# Altium schematic symbol library CompleteLibrary.SchLib: 558 symbols (part 1 of 4)
Pins are listed as number, name and electrical type; pins without a type are passive.

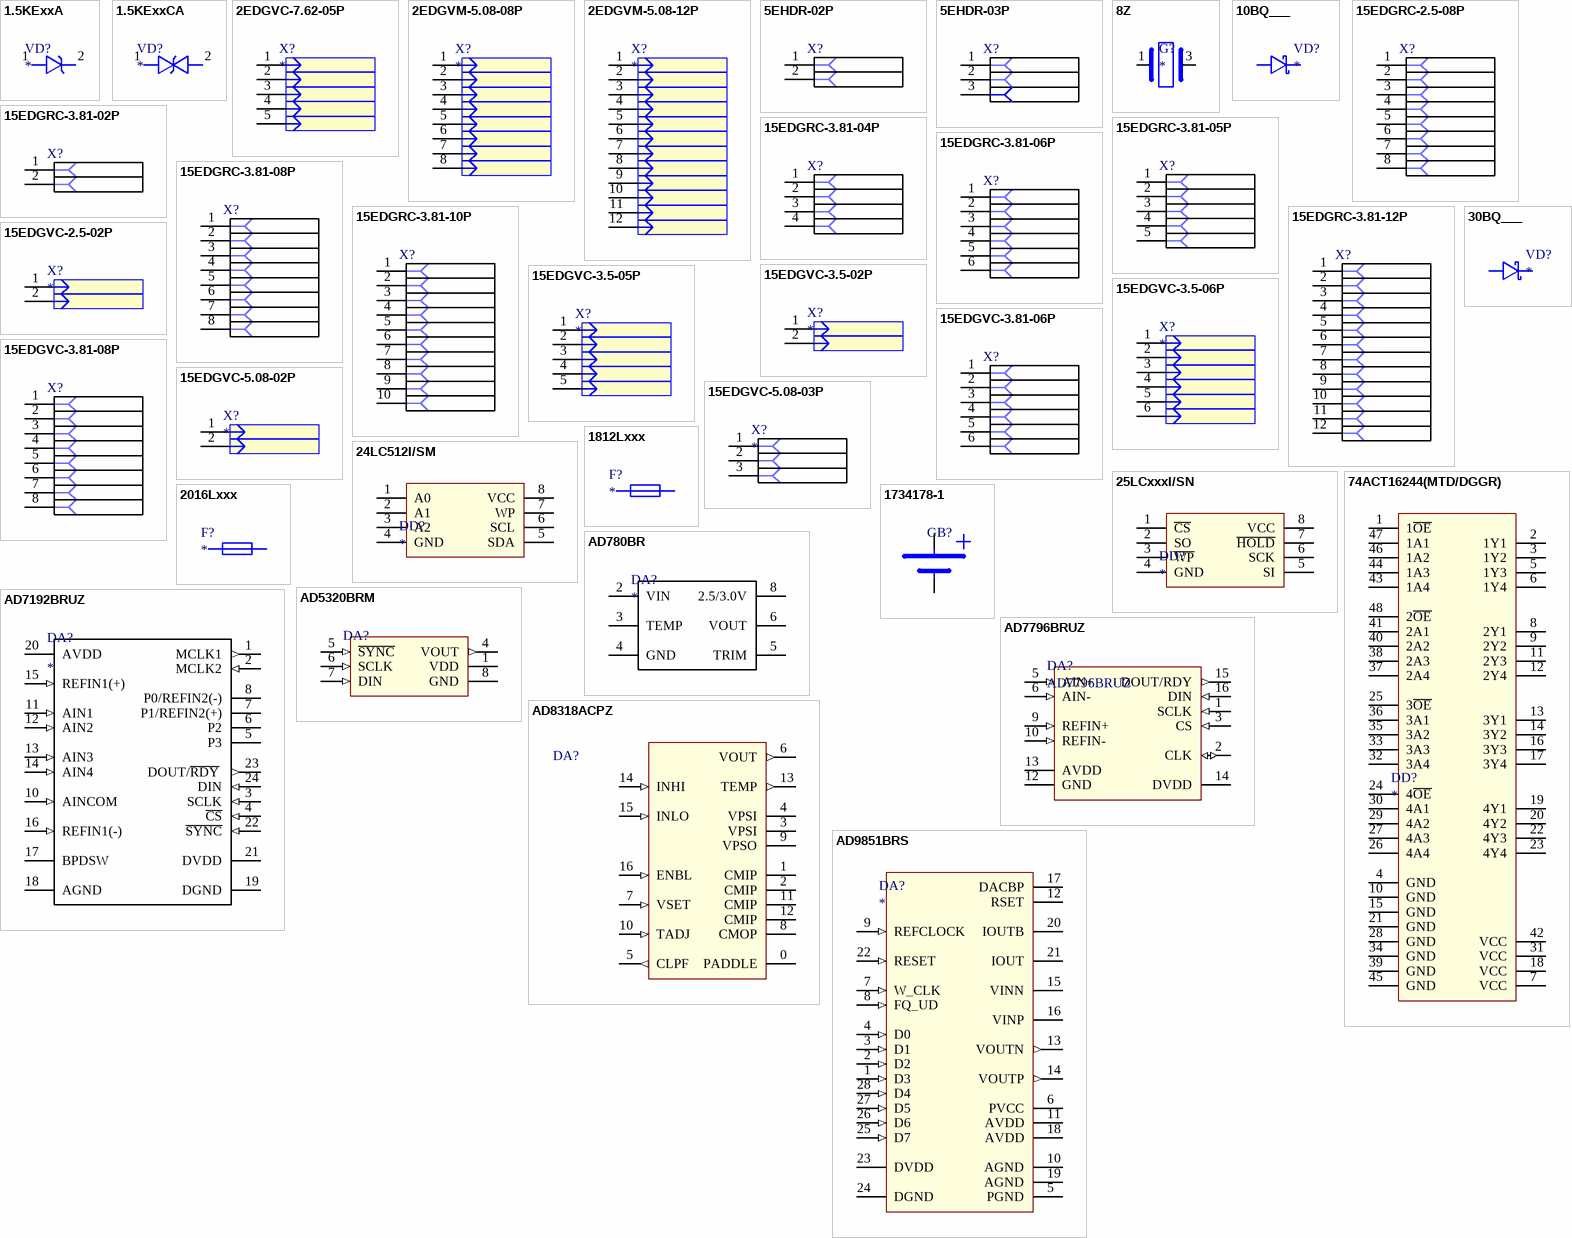
[diagram p0: symbols 1.5KExxA to AD9851BRS]

## 1.5KExxA
designator VD?
DIODE TVS Unidirectional 1500W TRANSIL 6.8V...440V; Описание: ???; NumberSolderPointsSMD: 0; Аналог: нет; NumberSolderPointsTHT: 0
footprint R6
pins: 1, 2

## 1.5KExxCA
designator VD?
DIODE TVS Bidirectional 1500W TRANSIL 6.8V...440V; Описание: ???; NumberSolderPointsSMD: 0; Аналог: нет; NumberSolderPointsTHT: 0
footprint R6
pins: 1, 2

## 2EDGVC-7.62-05P
designator X?
CONNECTOR TERMINAL pitch=7.62mm; NumberSolderPointsSMD: 0; Описание: ???; Аналог: нет; NumberSolderPointsTHT: 0
footprint 2EDGVC-7.62-05P
pins: 1, 2, 3, 4, 5

## 2EDGVM-5.08-08P
designator X?
CONNECTOR TERMINAL pitch=5.08mm; Описание: ???; NumberSolderPointsSMD: 0; Аналог: нет; NumberSolderPointsTHT: 0
footprint 2EDGVM-5.08-08P
pins: 1, 2, 3, 4, 5, 6, 7, 8

## 2EDGVM-5.08-12P
designator X?
CONNECTOR TERMINAL pitch=5.08mm; Описание: ???; NumberSolderPointsSMD: 0; Аналог: нет; NumberSolderPointsTHT: 0
footprint 2EDGVM-5.08-12P
pins: 1, 2, 3, 4, 5, 6, 7, 8, 9, 10, 11, 12

## 5EHDR-02P
designator X?
CONNECTOR TERMINAL pitch=5mm; Аналог: ECH381R-02P; Описание: Клеммник разъемный 5мм; NumberSolderPointsSMD: 0; Комплект: 5ESDV-02P; NumberSolderPointsTHT: 0
footprint 5EHDR-02P
pins: 1, 2

## 5EHDR-03P
designator X?
CONNECTOR TERMINAL pitch=5mm; Аналог: ECH381R-03P; Описание: Клеммник разъемный 5мм; NumberSolderPointsSMD: 0; Комплект: 5ESDV-03P; NumberSolderPointsTHT: 0
footprint 5EHDR-03P
pins: 1, 2, 3

## 8Z
designator G?
OSCILLATOR TXC 2.5x2.0mm; Описание: Кварцевый резонатор SMD; NumberSolderPointsSMD: 0; Аналог: нет; x: 8Z-27.120MAHQ-T; NumberSolderPointsTHT: 0
footprint TXC_8Z
pins: 1, 3

## 10BQ___
designator VD?
DIODE Schottky rectifier; Описание: Диод SMB; NumberSolderPointsSMD: 0; Аналог: нет; x: 10bq015/030/040/060/100; NumberSolderPointsTHT: 0
footprint SMB_10BQ40
pins: 1, 2

## 15EDGRC-2.5-08P
designator X?
CONNECTOR TERMINAL pitch=2.5mm; Аналог: ECH250R-08P; Описание: Клеммник разъемный 3.81мм; NumberSolderPointsSMD: 0; Комплект: ESC250V-08P, 15EDGKD-2.5-08P; NumberSolderPointsTHT: 0
footprint 15EDGRC-2.5-08
pins: 1, 2, 3, 4, 5, 6, 7, 8

## 15EDGRC-3.81-02P
designator X?
CONNECTOR TERMINAL pitch=3.81mm; Аналог: ECH381R-02P; Описание: Клеммник разъемный 3.81мм; NumberSolderPointsSMD: 0; Комплект: EC381V-02P, 15EDGK-3.81-02; NumberSolderPointsTHT: 0
footprint 15EDGRC-3.81-02
pins: 1, 2

## 15EDGRC-3.81-04P
designator X?
CONNECTOR TERMINAL pitch=3.81mm; Аналог: ECH381R-04P; Описание: Клеммник разъемный 3.81мм; NumberSolderPointsSMD: 0; Комплект: EC381V-04P, 15EDGK-3.81-04; NumberSolderPointsTHT: 0
footprint 15EDGRC-3.81-04
pins: 1, 2, 3, 4

## 15EDGRC-3.81-05P
designator X?
CONNECTOR TERMINAL pitch=3.81mm; Аналог: ECH381R-05P; Описание: Клеммник разъемный 3.81мм; NumberSolderPointsSMD: 0; Комплект: EC381V-05P, 15EDGK-3.81-05; NumberSolderPointsTHT: 0
footprint 15EDGRC-3.81-05
pins: 1, 2, 3, 4, 5

## 15EDGRC-3.81-06P
designator X?
CONNECTOR TERMINAL pitch=3.81mm; Аналог: ECH381R-06P; Описание: Клеммник разъемный 3.81мм; NumberSolderPointsSMD: 0; Комплект: EC381V-06P, 15EDGK-3.81-06; NumberSolderPointsTHT: 0
footprint 15EDGRC-3.81-06
pins: 1, 2, 3, 4, 5, 6

## 15EDGRC-3.81-08P
designator X?
CONNECTOR TERMINAL pitch=3.81mm; Аналог: ECH381R-08P; Описание: Клеммник разъемный 3.81мм; NumberSolderPointsSMD: 0; Комплект: EC381V-08P, 15EDGK-3.81-08; NumberSolderPointsTHT: 0
footprint 15EDGRC-3.81-08
pins: 1, 2, 3, 4, 5, 6, 7, 8

## 15EDGRC-3.81-10P
designator X?
CONNECTOR TERMINAL pitch=3.81mm; Аналог: ECH381R-10P; Описание: Клеммник разъемный 3.81мм; NumberSolderPointsSMD: 0; Комплект: EC381V-10P, 15EDGK-3.81-10; NumberSolderPointsTHT: 0
footprint 15EDGRC-3.81-10
pins: 1, 2, 3, 4, 5, 6, 7, 8, 9, 10

## 15EDGRC-3.81-12P
designator X?
CONNECTOR TERMINAL pitch=3.81mm; Аналог: ECH381R-12P; Описание: Клеммник разъемный 3.81мм; NumberSolderPointsSMD: 0; Комплект: EC381V-12P, 15EDGK-3.81-12; NumberSolderPointsTHT: 0
footprint 15EDGRC-3.81-12
pins: 1, 2, 3, 4, 5, 6, 7, 8, 9, 10, 11, 12

## 15EDGVC-2.5-02P
designator X?
CONNECTOR TERMINAL pitch=2.5mm; Описание: ???; NumberSolderPointsSMD: 0; Аналог: нет; NumberSolderPointsTHT: 0
footprint 15EDGVC-2.5-02P
pins: 1, 2

## 15EDGVC-3.5-02P
designator X?
CONNECTOR TERMINAL pitch=3.5mm; Описание: ???; NumberSolderPointsSMD: 0; Аналог: нет; NumberSolderPointsTHT: 0
footprint 15EDGVC-3.5-02P
pins: 1, 2

## 15EDGVC-3.5-05P
designator X?
CONNECTOR TERMINAL pitch=3.5mm; Описание: ???; NumberSolderPointsSMD: 0; Аналог: нет; NumberSolderPointsTHT: 0
footprint 15EDGVC-3.5-05P
pins: 1, 2, 3, 4, 5

## 15EDGVC-3.5-06P
designator X?
CONNECTOR TERMINAL pitch=3.5mm; Описание: ???; NumberSolderPointsSMD: 0; Аналог: нет; NumberSolderPointsTHT: 0
footprint 15EDGVC-3.5-06P
pins: 1, 2, 3, 4, 5, 6

## 15EDGVC-3.81-06P
designator X?
CONNECTOR TERMINAL pitch=3.81mm; Описание: ???; NumberSolderPointsSMD: 0; Аналог: нет; NumberSolderPointsTHT: 0
footprint 15EDGVC-3.81-06
pins: 1, 2, 3, 4, 5, 6

## 15EDGVC-3.81-08P
designator X?
CONNECTOR TERMINAL pitch=3.81mm; Описание: ???; NumberSolderPointsSMD: 0; Аналог: нет; NumberSolderPointsTHT: 0
pins: 1, 2, 3, 4, 5, 6, 7, 8

## 15EDGVC-5.08-02P
designator X?
CONNECTOR TERMINAL pitch=5.08mm; Описание: ???; NumberSolderPointsSMD: 0; Аналог: нет; NumberSolderPointsTHT: 0
footprint 15EDGVC-5.08-02P
pins: 1, 2

## 15EDGVC-5.08-03P
designator X?
CONNECTOR TERMINAL pitch=5.08mm; Описание: ???; NumberSolderPointsSMD: 0; Аналог: нет; NumberSolderPointsTHT: 0
footprint 15EDGVC-5.08-03P
pins: 1, 2, 3

## 24LC512I/SM
designator DD?
IC 512K I2C CMOS Serial EEPROM; Описание: ???; NumberSolderPointsSMD: 0; Аналог: нет; NumberSolderPointsTHT: 0
footprint SO8_24LC412
pins: 1 A0, 2 A1, 3 A2, 4 GND, 5 SDA, 6 SCL, 7 WP, 8 VCC

## 25LCxxxI/SN
designator DD?
IC SPI Serial EEPROM; Описание: ???; NumberSolderPointsSMD: 0; Аналог: нет; NumberSolderPointsTHT: 0
footprint SO8
pins: 1 ~{CS}, 2 SO, 3 ~{WP}, 4 GND, 5 SI, 6 SCK, 7 ~{HOLD}, 8 VCC

## 30BQ___
designator VD?
DIODE Schottky rectifier; Описание: Диод SMC; NumberSolderPointsSMD: 0; Аналог: нет; x: 30bq040 30bq060 30bq100; NumberSolderPointsTHT: 0
footprint SMC
pins: 1, 2

## 74ACT16244(MTD/DGGR)
designator DD?
IC 16-bit  buffers/line drivers TSSOP48; Описание: ???; NumberSolderPointsSMD: 0; Аналог: нет; NumberSolderPointsTHT: 0
footprint TSSOP48_SN54ACT16244
pins: 1 1~{OE}, 2 1Y1, 3 1Y2, 4 GND, 5 1Y3, 6 1Y4, 7 VCC, 8 2Y1, 9 2Y2, 10 GND, 11 2Y3, 12 2Y4, 13 3Y1, 14 3Y2, 15 GND, 16 3Y3, 17 3Y4, 18 VCC, 19 4Y1, 20 4Y2, 21 GND, 22 4Y3, 23 4Y4, 24 4~{OE}, 25 3~{OE}, 26 4A4, 27 4A3, 28 GND, 29 4A2, 30 4A1, 31 VCC, 32 3A4, 33 3A3, 34 GND, 35 3A2, 36 3A1, 37 2A4, 38 2A3, 39 GND, 40 2A2, 41 2A1, 42 VCC, 43 1A4, 44 1A3, 45 GND, 46 1A2, 47 1A1, 48 2~{OE}

## 1812Lxxx
designator F?
RESISTOR PTC Resettable Fuse; Описание: Предохранитель; NumberSolderPointsSMD: 0; Аналог: нет; NumberSolderPointsTHT: 0
footprint 1812Lxxx
pins: 1, 2

## 2016Lxxx
designator F?
RESISTOR PTC Resettable Fuse; Описание: Предохранитель; NumberSolderPointsSMD: 0; Аналог: нет; NumberSolderPointsTHT: 0
footprint 2016L050
pins: 1, 2

## 1734178-1
designator GB?  (value not drawn)
BATTERY CR2032; Описание: Литиевая батарейка; NumberSolderPointsSMD: 0; Аналог: нет; NumberSolderPointsTHT: 0
footprint 1734178-1
pins: 1 +, 2 -

## AD780BR
designator DA?
IC High Precision Reference 2.5 V/3.0 V; Описание: Микросхема SO8; NumberSolderPointsSMD: 0; Аналог: нет; NumberSolderPointsTHT: 0
footprint SO8
pins: 2 VIN, 3 TEMP, 4 GND, 5 TRIM, 6 VOUT, 8 2.5/3.0V

## AD5320BRM
designator DA?  (value not drawn)
IC 12-Bit DAC; Описание: ???; NumberSolderPointsSMD: 0; Аналог: нет; NumberSolderPointsTHT: 0
footprint MSOP8_AD5320
pins: 1 VDD (power), 4 VOUT (out), 5 ~{SYNC} (in), 6 SCLK (in), 7 DIN (in), 8 GND (power)

## AD7192BRUZ
designator DA?
IC 240bit sigma-delta ADC; Аналог: нет; Описание: ???
footprint TSSOP24_AD
pins: 1 MCLK1 (out), 2 MCLK2 (in), 3 SCLK (in), 4 ~{CS} (in), 5 P3, 6 P2, 7 P1/REFIN2(+), 8 P0/REFIN2(-), 10 AINCOM (in), 11 AIN1 (in), 12 AIN2 (in), 13 AIN3 (in), 14 AIN4 (in), 15 REFIN1(+) (in), 16 REFIN1(-) (in), 17 BPDSW, 18 AGND, 19 DGND, 20 AVDD, 21 DVDD, 22 ~{SYNC} (in), 23 DOUT/~{RDY}  (out), 24 DIN (in)

## AD7796BRUZ
designator DA?
IC 24-bit sigma-delta ADC; Описание: ???; NumberSolderPointsSMD: 0; Аналог: нет; NumberSolderPointsTHT: 0
footprint TSSOP16_TPS43000
pins: 1 SCLK (in), 2 CLK (io), 3 CS (in), 5 AIN+ (in), 6 AIN- (in), 9 REFIN+ (in), 10 REFIN- (in), 12 GND (power), 13 AVDD (power), 14 DVDD (power), 15 DOUT/RDY (out), 16 DIN (in)

## AD8318ACPZ
designator DA?  (value not drawn)
IC 1MHz...8GHz 70dB Logarithmic Detector/Controller; Описание: ???; NumberSolderPointsSMD: 0; Аналог: нет; NumberSolderPointsTHT: 0
footprint LFCSP16_AD8318
pins: 0 PADDLE (power) "Internally Connected to CMIP (Solder to Ground).", 1 CMIP (power) "Device Common (Input System Ground)", 2 CMIP (power) "Device Common (Input System Ground)", 3 VPSI (power) "Positive Supply Voltage (Input System): 4.5 V to 5.5 V.", 4 VPSI (power) "Positive Supply Voltage (Input System): 4.5 V to 5.5 V.", 5 CLPF (out) "Loop Filter Capacitor", 6 VOUT (out) "Measurement and Controller Output.", 7 VSET (in) "Setpoint Input for Controller Mode or Feedback Input for Measurement Mode.", 8 CMOP (power) "Device Common (Output System Ground).", 9 VPSO (power) "Positive Supply Voltage (Output System): 4.5 V to 5.5 V.", 10 TADJ (in) "Temperature Compensation Adjustment.", 11 CMIP (power) "Device Common (Input System Ground)", 12 CMIP (power) "Device Common (Input System Ground)", 13 TEMP (out) "Temperature Sensor Output.", 14 INHI (in) "RF Input. Nominal input range: ?60 dBm to 0 dBm (re: 50 ?), ac-coupled.", 15 INLO (in) "RF Common for INHI. AC-coupled RF common.", 16 ENBL (in) "Device Enable. Connect to VPSI for normal operation. Connect pin to ground for disable mode."

## AD9851BRS
designator DA?
IC CMOS 180 MHz  DDS/DAC Synthesizer; Описание: ???; NumberSolderPointsSMD: 0; Аналог: нет; NumberSolderPointsTHT: 0
footprint SSOP28_AD9851BRS
pins: 1 D3 (in), 2 D2 (in), 3 D1 (in), 4 D0 (in), 5 PGND, 6 PVCC, 7 W_CLK (in), 8 FQ_UD (in), 9 REFCLOCK (in), 10 AGND, 11 AVDD, 12 RSET, 13 VOUTN (out), 14 VOUTP (out), 15 VINN, 16 VINP, 17 DACBP, 18 AVDD, 19 AGND, 20 IOUTB, 21 IOUT, 22 RESET (in), 23 DVDD, 24 DGND, 25 D7 (in), 26 D6 (in), 27 D5 (in), 28 D4 (in)

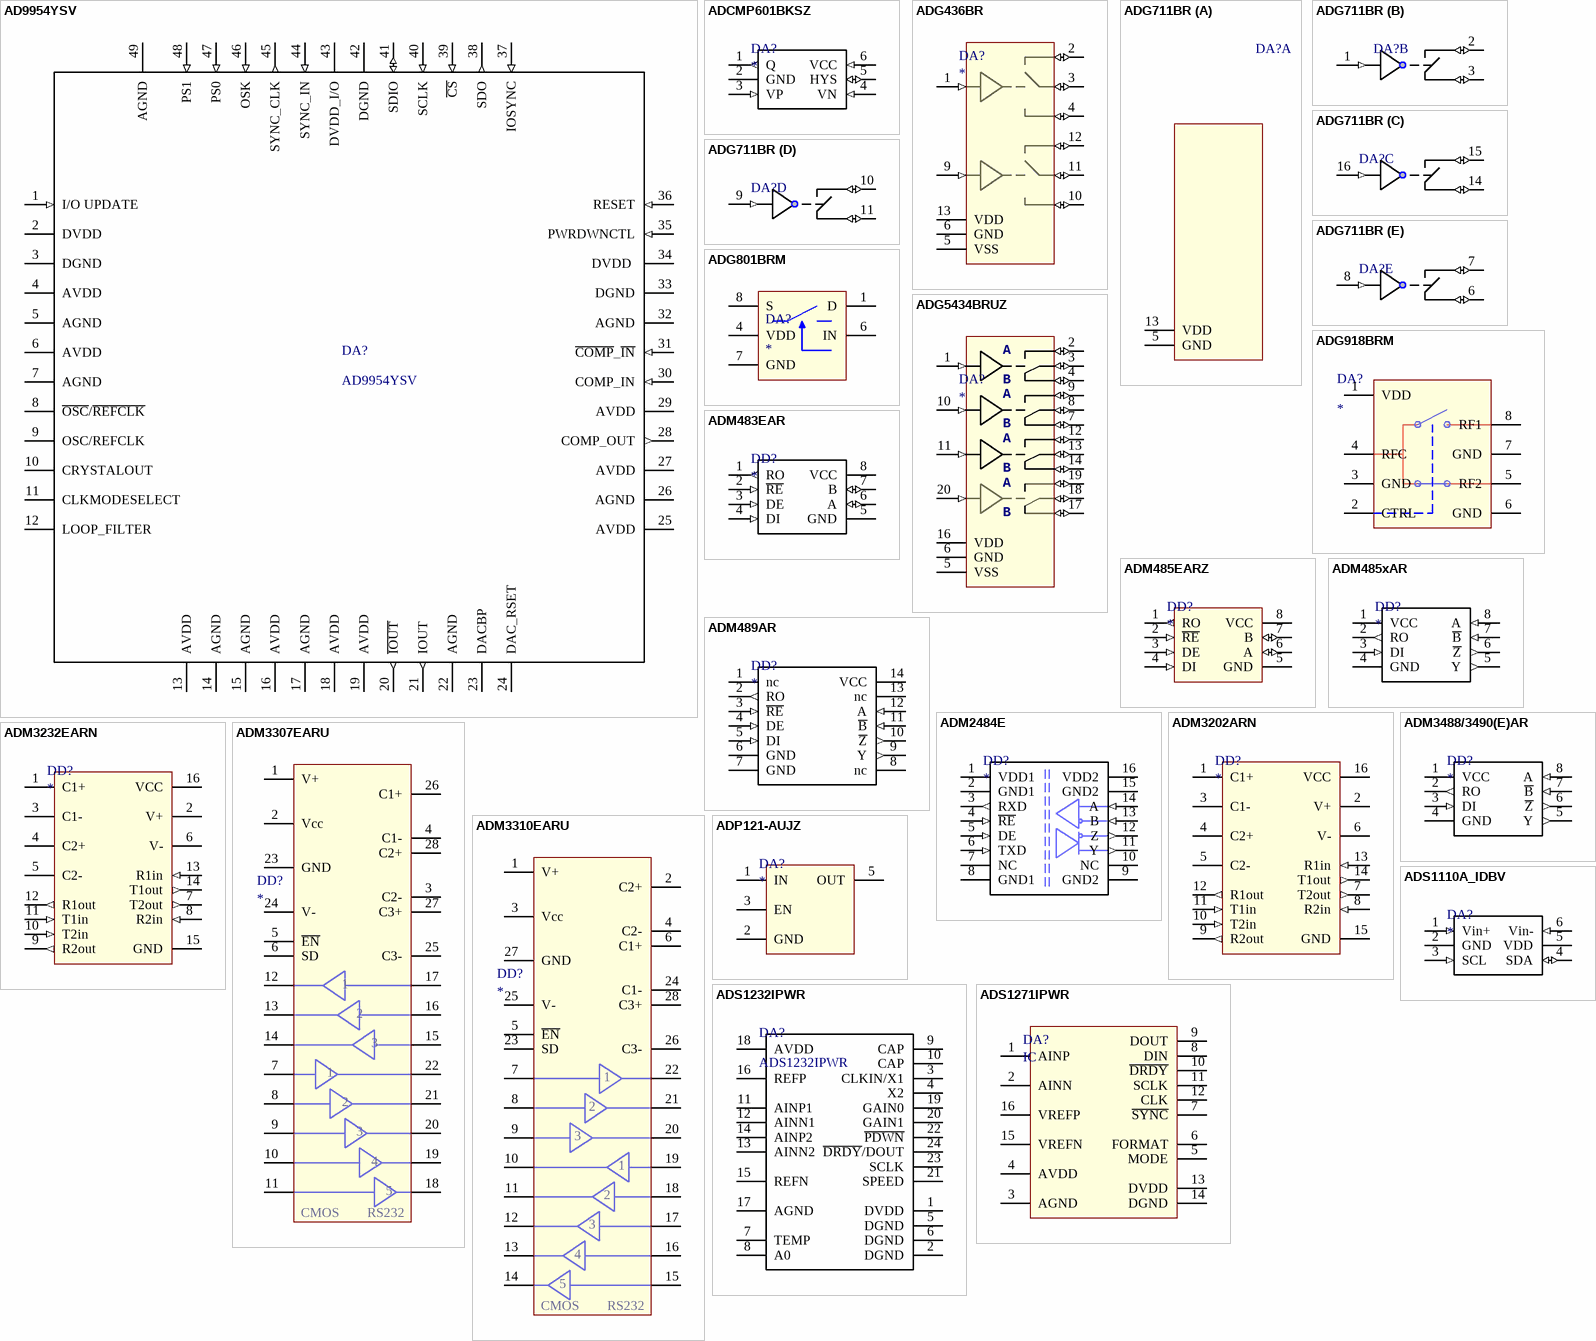
[diagram p1: symbols AD9954YSV to ADS1271IPWR]

## AD9954YSV
designator DA?
IC 400MSps DDS; Аналог: нет; Описание: ???
footprint TQFP48EP_AD9954
pins: 1 I/O UPDATE (in), 2 DVDD , 3 DGND, 4 AVDD, 5 AGND, 6 AVDD, 7 AGND, 8 ~{OSC}/~{REFCLK}, 9 OSC/REFCLK, 10 CRYSTALOUT, 11 CLKMODESELECT, 12 LOOP_FILTER, 13 AVDD, 14 AGND, 15 AGND, 16 AVDD, 17 AGND, 18 AVDD, 19 AVDD, 20 ~{IOUT} (out), 21 IOUT (out), 22 AGND, 23 DACBP, 24 DAC_RSET, 25 AVDD, 26 AGND, 27 AVDD, 28 COMP_OUT (out), 29 AVDD, 30 COMP_IN (in), 31 ~{COMP}_~{IN} (in), 32 AGND, 33 DGND, 34 DVDD  (power), 35 PWRDWNCTL (in), 36 RESET (in), 37 IOSYNC (in), 38 SDO (out), 39 ~{CS} (in), 40 SCLK (in), 41 SDIO (io), 42 DGND, 43 DVDD_I/O (power), 44 SYNC_IN (in), 45 SYNC_CLK (out), 46 OSK (in), 47 PS0 (in), 48 PS1 (in), 49 AGND

## ADCMP601BKSZ
designator DA?
IC; Описание: Микросхема SC70-6; Аналог: нет
footprint SC70-6
pins: 1 Q (out), 2 GND (power), 3 VP (in), 4 VN (in), 5 HYS (io), 6 VCC (in)

## ADG436BR
designator DA?
IC; Описание: ???; NumberSolderPointsSMD: 0; Аналог: нет; NumberSolderPointsTHT: 0
footprint SO16
footprint SOIC-16-150mil-COMPACT
pins: 1 IN (in), 2 D (io), 3 S (io), 4 D (io), 5 VSS (power), 6 GND (power), 9 IN (in), 10 D (io), 11 S (io), 12 D (io), 13 VDD (power)

## ADG711BR
designator DA?  (value not drawn)
IC CMOS Low Voltage 4 Ohm Quad SPST Switches; Описание: ???; NumberSolderPointsSMD: 0; Аналог: нет; NumberSolderPointsTHT: 0
footprint SO16
part A pins: 5 GND, 13 VDD
part B pins: 1 IN (in), 2 D (io), 3 S (io)
part C pins: 14 S (io), 15 D (io), 16 IN (in)
part D pins: 9 IN (in), 10 D (io), 11 S (io)
part E pins: 6 S (io), 7 D (io), 8 IN (in)

## ADG801BRM
designator DA?
IC <0.4 ohm CMOS 1.8 V to 5.5 V  SPST Switch; Описание: ???; NumberSolderPointsSMD: 0; Аналог: нет; NumberSolderPointsTHT: 0
footprint MSOP8_ADG801
pins: 1 D, 4 VDD, 6 IN, 7 GND, 8 S

## ADG918BRM
designator DA?
IC Wideband 4 GHz CMOS SPDT; Описание: ???; NumberSolderPointsSMD: 0; Аналог: нет; NumberSolderPointsTHT: 0
footprint MSOP8_ADG918
pins: 1 VDD, 2 CTRL, 3 GND, 4 RFC, 5 RF2, 6 GND, 7 GND, 8 RF1

## ADG5434BRUZ
designator DA?
IC; Описание: ???; NumberSolderPointsSMD: 0; Аналог: нет; NumberSolderPointsTHT: 0
footprint TSSOP20_AD
pins: 1 IN (in), 2 D (io), 3 S (io), 4 D (io), 5 VSS (power), 6 GND (power), 7 D (io), 8 S (io), 9 D (io), 10 IN (in), 11 IN (in), 12 D (io), 13 S (io), 14 D (io), 16 VDD (power), 17 D (io), 18 S (io), 19 D (io), 20 IN (in)
text: A; B

## ADM483EAR
designator DD?
IC TRANSCEIVER RS485 +5V 250kbps HalfDuplex; Описание: ???; Аналог: нет; NumberSolderPointsSMD: 0; NumberSolderPointsTHT: 0
footprint SO8
pins: 1 RO (out), 2 ~{RE} (in), 3 DE (in), 4 DI (in), 5 GND (power), 6 A (io), 7 B (io), 8 VCC (power)

## ADM485EARZ
designator DD?
IC TRANSCEIVER RS485; Описание: ???; NumberSolderPointsSMD: 0; Аналог: нет; NumberSolderPointsTHT: 0
footprint SO8
pins: 1 RO (out), 2 ~{RE} (in), 3 DE (in), 4 DI (in), 5 GND (power), 6 A (io), 7 B (io), 8 VCC (power)

## ADM485xAR
designator DD?
IC TRANSCEIVER RS485 +5V FullDuplex 115kbps(x=4)/500kbps(x=5)/2.5Mbps(x=6)/10Mbps(x=7); Описание: Микросхема SO8; Аналог: нет; NumberSolderPointsSMD: 0; x: ADM4850: 115 kbps ADM4851: 500 kbps ADM4852: 2.5 Mbps ADM4853: 10 Mbps; NumberSolderPointsTHT: 0
footprint SO8
pins: 1 VCC (power), 2 RO (out), 3 DI (in), 4 GND (power), 5 Y (out), 6 ~{Z} (out), 7 ~{B} (in), 8 A (in)

## ADM489AR
designator DD?
IC TRANSCEIVER RS485 +5V 250kbps FullDuplex; Описание: Микросхема SO14; Аналог: MAX489ESD; NumberSolderPointsTHT: 0
footprint SO14
pins: 1 nc, 2 RO (out), 3 ~{RE} (in), 4 DE (in), 5 DI (in), 6 GND (power), 7 GND (power), 8 nc, 9 Y (out), 10 ~{Z} (out), 11 ~{B} (in), 12 A (in), 13 nc, 14 VCC (power)

## ADM2484E
designator DD?
IC 500 kbps, ESD Protected, Half-/Full-Duplex,  iCoupler, Isolated RS-485 Transceiver; Описание: ???; NumberSolderPointsSMD: 0; Аналог: нет; NumberSolderPointsTHT: 0
footprint SO16W
pins: 1 VDD1, 2 GND1, 3 RXD (out), 4 ~{RE} (in), 5 DE (in), 6 TXD (in), 7 NC, 8 GND1, 9 GND2, 10 NC, 11 Y (out), 12 Z (out), 13 B (in), 14 A (in), 15 GND2, 16 VDD2

## ADM3202ARN
designator DD?
IC Rs-232 xceiver; Описание: ???; NumberSolderPointsSMD: 0; Аналог: нет; NumberSolderPointsTHT: 0
footprint SO16
pins: 1 C1+ (power), 2 V+ (power), 3 C1- (power), 4 C2+ (power), 5 C2- (power), 6 V- (power), 7 T2out (out), 8 R2in (in), 9 R2out (out), 10 T2in (in), 11 T1in (in), 12 R1out (out), 13 R1in (in), 14 T1out (out), 15 GND (power), 16 VCC (power)

## ADM3232EARN
designator DD?
IC Rs-232 xceiver; Описание: Микросхема SO16; NumberSolderPointsSMD: 0; Аналог: нет; NumberSolderPointsTHT: 0
footprint SO16
pins: 1 C1+ (power), 2 V+ (power), 3 C1- (power), 4 C2+ (power), 5 C2- (power), 6 V- (power), 7 T2out (out), 8 R2in (in), 9 R2out (out), 10 T2in (in), 11 T1in (in), 12 R1out (out), 13 R1in (in), 14 T1out (out), 15 GND (power), 16 VCC (power)

## ADM3307EARU
designator DD?
IC 15 kV ESD Protected, 3.3 V Rs-232 Transceivers; Описание: ???; NumberSolderPointsSMD: 0; Аналог: нет; NumberSolderPointsTHT: 0
footprint TSSOP28_ADM3310EARU
pins: 1 V+, 2 Vcc, 3 C2-, 4 C1-, 5 ~{EN}, 6 SD, 7, 8, 9, 10, 11, 12, 13, 14, 15, 16, 17, 18, 19, 20, 21, 22, 23 GND, 24 V-, 25 C3-, 26 C1+, 27 C3+, 28 C2+
text: CMOS; RS232

## ADM3310EARU
designator DD?
IC 15 kV ESD Protected, 3.3 V Rs-232 Transceivers; Описание: ???; NumberSolderPointsSMD: 0; Аналог: нет; NumberSolderPointsTHT: 0
footprint TSSOP28_ADM3310EARU
pins: 1 V+, 2 C2+, 3 Vcc, 4 C2-, 5 ~{EN}, 6 C1+, 7, 8, 9, 10, 11, 12, 13, 14, 15, 16, 17, 18, 19, 20, 21, 22, 23 SD, 24 C1-, 25 V-, 26 C3-, 27 GND, 28 C3+
text: CMOS; RS232

## ADM3488/3490(E)AR
designator DD?
IC TRANSCEIVER RS485 +3.3V FullDuplex 10Mbps; Описание: Микросхема SO8; Аналог: нет; NumberSolderPointsSMD: 0; x: ADM3488 - 250kbps, ADM3490 - 10Mbps, E - esd protection; NumberSolderPointsTHT: 0
footprint SO8
pins: 1 VCC (power), 2 RO (out), 3 DI (in), 4 GND (power), 5 Y (out), 6 ~{Z} (out), 7 ~{B} (in), 8 A (in)

## ADP121-AUJZ
designator DA?
IC 150mA LDO; Описание: ???; NumberSolderPointsSMD: 0; Аналог: нет; NumberSolderPointsTHT: 0
footprint SOT23-5
pins: 1 IN, 2 GND, 3 EN, 5 OUT

## ADS1110A_IDBV
designator DA?
IC 16bit adc with onboard reference; Аналог: нет; Описание: ???
footprint SOT23-6
pins: 1 Vin+ (in), 2 GND (power), 3 SCL (in), 4 SDA (io), 5 VDD (power), 6 Vin- (in)

## ADS1232IPWR
designator DA?
Аналог: нет; Описание: ???
footprint TSSOP24_MSP430
pins: 1 DVDD, 2 DGND, 3 CLKIN/X1, 4 X2, 5 DGND, 6 DGND, 7 TEMP, 8 A0, 9 CAP, 10 CAP, 11 AINP1, 12 AINN1, 13 AINN2, 14 AINP2, 15 REFN, 16 REFP, 17 AGND, 18 AVDD, 19 GAIN0, 20 GAIN1, 21 SPEED, 22 ~{PDWN}, 23 SCLK, 24 ~{DRDY}/DOUT

## ADS1271IPWR
designator DA?, comment IC
Описание: ???; NumberSolderPointsSMD: 0; Аналог: нет; NumberSolderPointsTHT: 0
footprint TSSOP16_TPS43000
pins: 1 AINP, 2 AINN, 3 AGND, 4 AVDD, 5 MODE, 6 FORMAT, 7 ~{SYNC}, 8 DIN, 9 DOUT, 10 ~{DRDY}, 11 SCLK, 12 CLK, 13 DVDD, 14 DGND, 15 VREFN, 16 VREFP

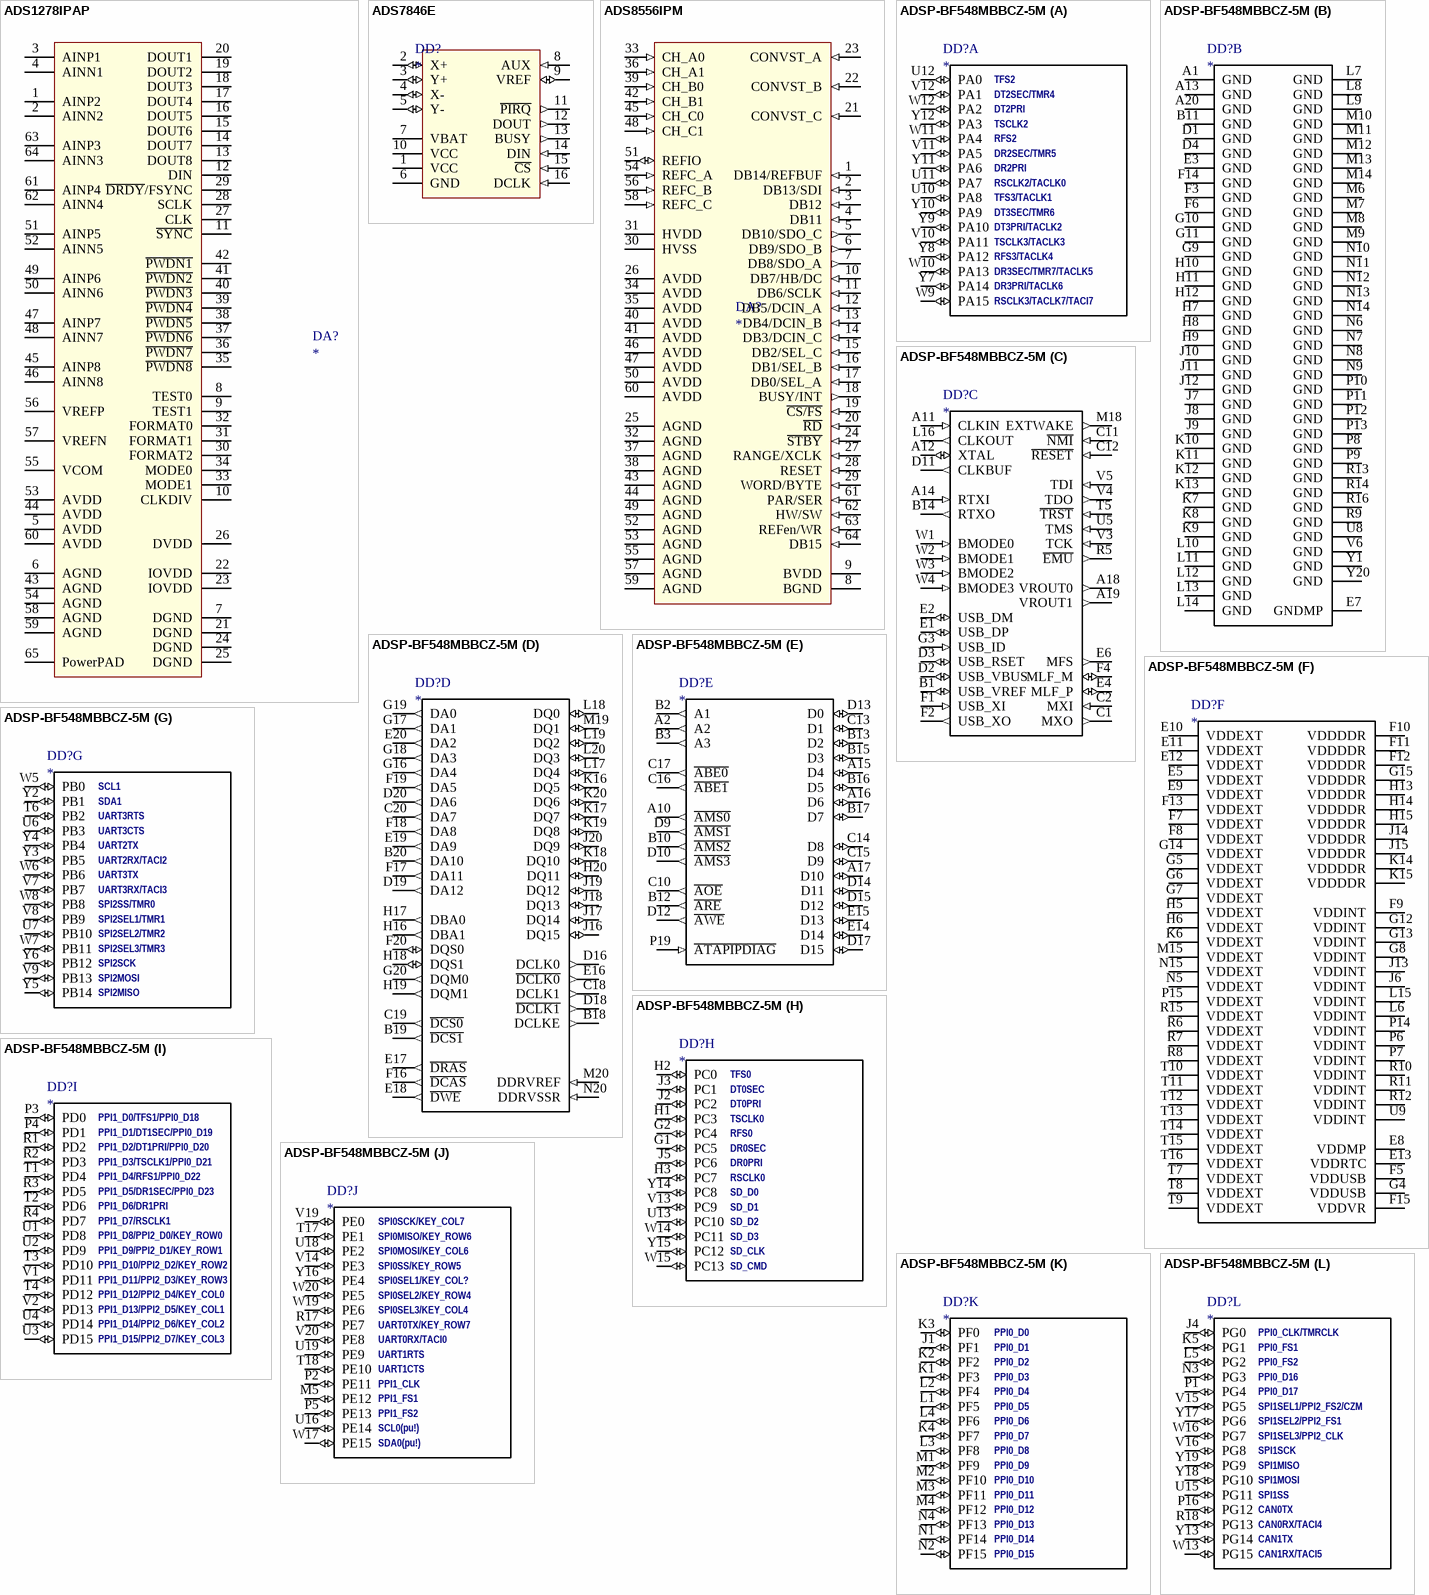
[diagram p2: symbols ADS1278IPAP to ADSP-BF548MBBCZ-5M]

## ADS1278IPAP
designator DA?
IC Octal Simultaneous Sampling, 24-Bit Analog-to-Digital Converters; Описание: ???; NumberSolderPointsSMD: 0; Аналог: нет; NumberSolderPointsTHT: 0
footprint PQFP64_ADS1278
pins: 1 AINP2, 2 AINN2, 3 AINP1, 4 AINN1, 5 AVDD, 6 AGND, 7 DGND, 8 TEST0, 9 TEST1, 10 CLKDIV, 11 ~{SYNC}, 12 DIN, 13 DOUT8, 14 DOUT7, 15 DOUT6, 16 DOUT5, 17 DOUT4, 18 DOUT3, 19 DOUT2, 20 DOUT1, 21 DGND, 22 IOVDD, 23 IOVDD, 24 DGND, 25 DGND, 26 DVDD, 27 CLK, 28 SCLK, 29 ~{DRDY}/FSYNC, 30 FORMAT2, 31 FORMAT1, 32 FORMAT0, 33 MODE1, 34 MODE0, 35 ~{PWDN8}, 36 ~{PWDN7}, 37 ~{PWDN6}, 38 ~{PWDN5}, 39 ~{PWDN4}, 40 ~{PWDN3}, 41 ~{PWDN2}, 42 ~{PWDN1}, 43 AGND, 44 AVDD, 45 AINP8, 46 AINN8, 47 AINP7, 48 AINN7, 49 AINP6, 50 AINN6, 51 AINP5, 52 AINN5, 53 AVDD, 54 AGND, 55 VCOM, 56 VREFP, 57 VREFN, 58 AGND, 59 AGND, 60 AVDD, 61 AINP4, 62 AINN4, 63 AINP3, 64 AINN3, 65 PowerPAD

## ADS7846E
designator DD?
IC; Описание: ???; NumberSolderPointsSMD: 0; Аналог: нет; NumberSolderPointsTHT: 0
footprint SSOP16_ADS7846E
pins: 1 VCC (power), 2 X+ (io), 3 Y+ (io), 4 X- (io), 5 Y- (io), 6 GND (power), 7 VBAT (power), 8 AUX (in), 9 VREF (io), 10 VCC (power), 11 ~{PIRQ} (out), 12 DOUT (out), 13 BUSY (out), 14 DIN (in), 15 ~{CS} (in), 16 DCLK (in)

## ADS8556IPM
designator DA?
IC 16-bit 6 channel simultaneous sampling SAR ADC; Описание: ???; NumberSolderPointsSMD: 0; Аналог: нет; NumberSolderPointsTHT: 0
footprint PQFP64_ADS8556
pins: 1 DB14/REFBUF (in), 2 DB13/SDI (in), 3 DB12 (in), 4 DB11 (in), 5 DB10/SDO_C (out), 6 DB9/SDO_B (out), 7 DB8/SDO_A (out), 8 BGND (power), 9 BVDD (power), 10 DB7/HB/DC (in), 11 DB6/SCLK (in), 12 DB5/DCIN_A (in), 13 DB4/DCIN_B (in), 14 DB3/DCIN_C (in), 15 DB2/SEL_C (in), 16 DB1/SEL_B (in), 17 DB0/SEL_A (in), 18 BUSY/INT (out), 19 ~{CS/FS} (in), 20 ~{RD} (in), 21 CONVST_C (in), 22 CONVST_B (in), 23 CONVST_A (in), 24 ~{STBY} (in), 25 AGND (power), 26 AVDD (power), 27 RANGE/XCLK (in), 28 RESET (in), 29 WORD/BYTE (in), 30 HVSS (power), 31 HVDD (power), 32 AGND (power), 33 CH_A0 (in), 34 AVDD (power), 35 AVDD (power), 36 CH_A1 (in), 37 AGND (power), 38 AGND (power), 39 CH_B0 (in), 40 AVDD (power), 41 AVDD (power), 42 CH_B1 (in), 43 AGND (power), 44 AGND (power), 45 CH_C0 (in), 46 AVDD (power), 47 AVDD (power), 48 CH_C1 (in), 49 AGND (power), 50 AVDD (power), 51 REFIO (io), 52 AGND (power), 53 AGND (power), 54 REFC_A (in), 55 AGND (power), 56 REFC_B (in), 57 AGND (power), 58 REFC_C (in), 59 AGND (power), 60 AVDD (power), 61 PAR/SER (in), 62 HW/SW (in), 63 REFen/WR (in), 64 DB15 (in)

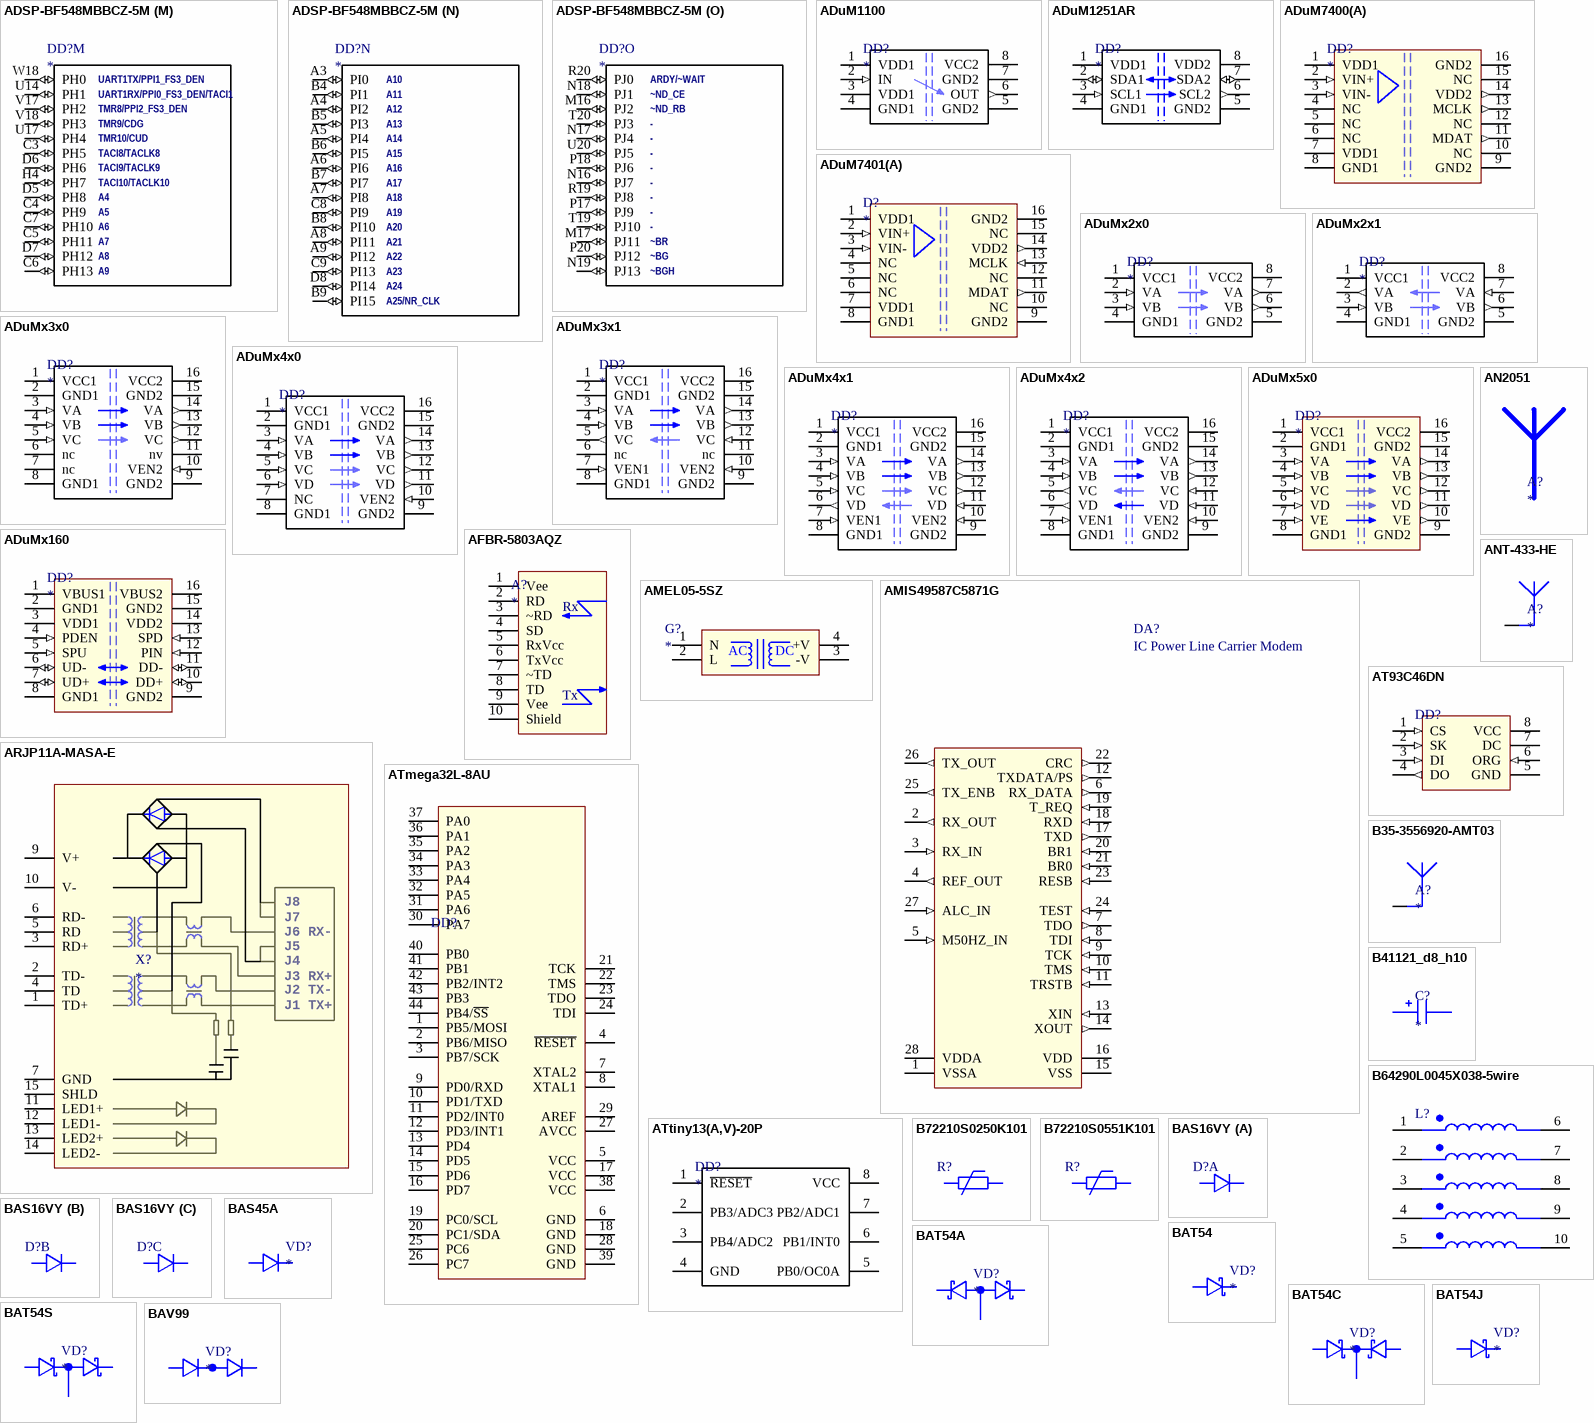
[diagram p3: symbols ADSP-BF548MBBCZ-5M to BAV99]

## ADSP-BF548MBBCZ-5M
designator DD?
IC UC/UP Blackfin  Embedded Processor; Описание: ???; NumberSolderPointsSMD: 0; Аналог: нет; NumberSolderPointsTHT: 0
footprint BGA400_ADSPBF548
part A pins: U10 PA8 (io), U11 PA7 (io), U12 PA0 (io), V10 PA11 (io), V11 PA5 (io), V12 PA1 (io), W9 PA15 (io), W10 PA13 (io), W11 PA4 (io), W12 PA2 (io), Y7 PA14 (io), Y8 PA12 (io), Y9 PA10 (io), Y10 PA9 (io), Y11 PA6 (io), Y12 PA3 (io)
part B pins: A1 GND, A13 GND, A20 GND, B11 GND, D1 GND, D4 GND, E3 GND, E7 GNDMP, F3 GND, F6 GND, F14 GND, G9 GND, G10 GND, G11 GND, H7 GND, H8 GND, H9 GND, H10 GND, H11 GND, H12 GND, J7 GND, J8 GND, J9 GND, J10 GND, J11 GND, J12 GND, K7 GND, K8 GND, K9 GND, K10 GND, K11 GND, K12 GND, K13 GND, L7 GND, L8 GND, L9 GND, L10 GND, L11 GND, L12 GND, L13 GND, L14 GND, M6 GND, M7 GND, M8 GND, M9 GND, M10 GND, M11 GND, M12 GND, M13 GND, M14 GND, N6 GND, N7 GND, N8 GND, N9 GND, N10 GND, N11 GND, N12 GND, N13 GND, N14 GND, P8 GND, P9 GND, P10 GND, P11 GND, P12 GND, P13 GND, R9 GND, R13 GND, R14 GND, R16 GND, U8 GND, V6 GND, Y1 GND, Y20 GND
part C pins: A11 CLKIN (in), A12 XTAL (io), A14 RTXI (in), A18 VROUT0 (out), A19 VROUT1 (out), B1 USB_VREF (io), B14 RTXO (out), C1 MXO (out), C2 MXI (in), C11 ~{NMI} (in), C12 ~{RESET} (in), D2 USB_VBUS (io), D3 USB_RSET (io), D11 CLKBUF (out), E1 USB_DP (io), E2 USB_DM (io), E4 MLF_P (io), E6 MFS (out), F1 USB_XI (in), F2 USB_XO (out), F4 MLF_M (io), G3 USB_ID (in), L16 CLKOUT (out), M18 EXTWAKE (out), R5 ~{EMU} (out), T5 ~{TRST} (in), U5 TMS (in), V3 TCK (in), V4 TDO (out), V5 TDI (in), W1 BMODE0 (in), W2 BMODE1 (in), W3 BMODE2 (in), W4 BMODE3 (in)
part D pins: B18 DCLKE (out), B19 ~{DCS1} (out), B20 DA10 (out), C18 DCLK1 (out), C19 ~{DCS0} (out), C20 DA7 (out), D16 DCLK0 (out), D18 ~{DCLK1} (out), D19 DA12 (out), D20 DA6 (out), E16 ~{DCLK0} (out), E17 ~{DRAS} (out), E18 ~{DWE} (out), E19 DA9 (out), E20 DA2 (out), F16 ~{DCAS} (out), F17 DA11 (out), F18 DA8 (out), F19 DA5 (out), F20 DQS0 (io), G16 DA4 (out), G17 DA1 (out), G18 DA3 (out), G19 DA0 (out), G20 DQM0 (out), H16 DBA1 (out), H17 DBA0 (out), H18 DQS1 (io), H19 DQM1 (out), H20 DQ11 (io), J16 DQ15 (io), J17 DQ14 (io), J18 DQ13 (io), J19 DQ12 (io), J20 DQ9 (io), K16 DQ5 (io), K17 DQ7 (io), K18 DQ10 (io), K19 DQ8 (io), K20 DQ6 (io), L17 DQ4 (io), L18 DQ0 (io), L19 DQ2 (io), L20 DQ3 (io), M19 DQ1 (io), M20 DDRVREF (in), N20 DDRVSSR (in)
part E pins: A2 (out), A10 ~{AMS0} (out), A15 D4 (io), A16 D6 (io), A17 D10 (io), B2 A1 (out), B3 A3 (out), B10 ~{AMS2} (out), B12 ~{ARE} (out), B13 D2 (io), B15 D3 (io), B16 D5 (io), B17 D7 (io), C10 ~{AOE} (out), C13 D1 (io), C14 D8 (io), C15 D9 (io), C16 ~{ABE1} (out), C17 ~{ABE0} (out), D9 ~{AMS1} (out), D10 ~{AMS3} (out), D12 ~{AWE} (out), D13 D0 (io), D14 D11 (io), D15 D12 (io), D17 D15 (io), E14 D14 (io), E15 D13 (io), P19 ~{ATAPIPDIAG} (in)
part F pins: E5 VDDEXT, E8 VDDMP, E9 VDDEXT, E10 VDDEXT, E11 VDDEXT, E12 VDDEXT, E13 VDDRTC, F5 VDDUSB, F7 VDDEXT, F8 VDDEXT, F9 VDDINT, F10 VDDDDR, F11 VDDDDR, F12 VDDDDR, F13 VDDEXT, F15 VDDVR, G4 VDDUSB, G5 VDDEXT, G6 VDDEXT, G7 VDDEXT, G8 VDDINT, G12 VDDINT, G13 VDDINT, G14 VDDEXT, G15 VDDDDR, H5 VDDEXT, H6 VDDEXT, H13 VDDDDR, H14 VDDDDR, H15 VDDDDR, J6 VDDINT, J13 VDDINT, J14 VDDDDR, J15 VDDDDR, K6 VDDEXT, K14 VDDDDR, K15 VDDDDR, L6 VDDINT, L15 VDDINT, M15 VDDEXT, N5 VDDEXT, N15 VDDEXT, P6 VDDINT, P7 VDDINT, P14 VDDINT, P15 VDDEXT, R6 VDDEXT, R7 VDDEXT, R8 VDDEXT, R10 VDDINT, R11 VDDINT, R12 VDDINT, R15 VDDEXT, T7 VDDEXT, T8 VDDEXT, T9 VDDEXT, T10 VDDEXT, T11 VDDEXT, T12 VDDEXT, T13 VDDEXT, T14 VDDEXT, T15 VDDEXT, T16 VDDEXT, U9 VDDINT
part G pins: T6 PB2 (io), U6 PB3 (io), U7 PB10 (io), V7 PB7 (io), V8 PB9 (io), V9 PB13 (io), W5 PB0 (io), W6 PB6 (io), W7 PB11 (io), W8 PB8 (io), Y2 PB1 (io), Y3 PB5 (io), Y4 PB4 (io), Y5 PB14 (io), Y6 PB12 (io)
part H pins: G1 PC5 (io), G2 PC4 (io), H1 PC3 (io), H2 PC0 (io), H3 PC7 (io), J2 PC2 (io), J3 PC1 (io), J5 PC6 (io), U13 PC10 (io), V13 PC9 (io), W14 PC11 (io), W15 PC13 (io), Y14 PC8 (io), Y15 PC12 (io)
part I pins: P3 PD0 (io), P4 PD1 (io), R1 PD2 (io), R2 PD3 (io), R3 PD5 (io), R4 PD7 (io), T1 PD4 (io), T2 PD6 (io), T3 PD10 (io), T4 PD12 (io), U1 PD8 (io), U2 PD9 (io), U3 PD15 (io), U4 PD14 (io), V1 PD11 (io), V2 PD13 (io)
part J pins: M5 PE12 (io), P2 PE11 (io), P5 PE13 (io), R17 PE7 (io), T17 PE1 (io), T18 PE10 (io), U16 PE14 (io), U18 PE2 (io), U19 PE9 (io), V14 PE3 (io), V19 PE0 (io), V20 PE8 (io), W17 PE15 (io), W19 PE6 (io), W20 PE5 (io), Y16 PE4 (io)
part K pins: J1 PF1 (io), K1 PF3 (io), K2 PF2 (io), K3 PF0 (io), K4 PF7 (io), L1 PF5 (io), L2 PF4 (io), L3 PF8 (io), L4 PF6 (io), M1 PF9 (io), M2 PF10 (io), M3 PF11 (io), M4 PF12 (io), N1 PF14 (io), N2 PF15 (io), N4 PF13 (io)
part L pins: J4 PG0 (io), K5 PG1 (io), L5 PG2 (io), N3 PG3 (io), P1 PG4 (io), P16 PG12 (io), R18 PG13 (io), U15 PG11 (io), V15 PG5 (io), V16 PG8 (io), W13 PG15 (io), W16 PG7 (io), Y13 PG14 (io), Y17 PG6 (io), Y18 PG10 (io), Y19 PG9 (io)
part M pins: C3 PH5 (io), C4 PH9 (io), C5 PH11 (io), C6 PH13 (io), C7 PH10 (io), D5 PH8 (io), D6 PH6 (io), D7 PH12 (io), H4 PH7 (io), U14 PH1 (io), U17 PH4 (io), V17 PH2 (io), V18 PH3 (io), W18 PH0 (io)
part N pins: A3 PI0 (io), A4 PI2 (io), A5 PI4 (io), A6 PI6 (io), A7 PI8 (io), A8 PI11 (io), A9 PI12 (io), B4 PI1 (io), B5 PI3 (io), B6 PI5 (io), B7 PI7 (io), B8 PI10 (io), B9 PI15 (io), C8 PI9 (io), C9 PI13 (io), D8 PI14 (io)
part O pins: M16 PJ2 (io), M17 PJ11 (io), N16 PJ7 (io), N17 PJ4 (io), N18 PJ1 (io), N19 PJ13 (io), P17 PJ9 (io), P18 PJ6 (io), P20 PJ12 (io), R19 PJ8 (io), R20 PJ0 (io), T19 PJ10 (io), T20 PJ3 (io), U20 PJ5 (io)
part A text: TFS2; DT2SEC/TMR4; DT2PRI; TSCLK2; RFS2; DR2SEC/TMR5; DR2PRI; RSCLK2/TACLK0; TFS3/TACLK1; DT3SEC/TMR6; DT3PRI/TACLK2; TSCLK3/TACLK3; RFS3/TACLK4; DR3SEC/TMR7/TACLK5; DR3PRI/TACLK6; RSCLK3/TACLK7/TACI7
part G text: SCL1; SDA1; UART3RTS; UART3CTS; UART2TX; UART2RX/TACI2; UART3TX; UART3RX/TACI3; SPI2SS/TMR0; SPI2SEL1/TMR1; SPI2SEL2/TMR2; SPI2SEL3/TMR3; SPI2SCK; SPI2MOSI; SPI2MISO
part H text: TFS0; DT0SEC; DT0PRI; TSCLK0; RFS0; DR0SEC; DR0PRI; RSCLK0; SD_D0; SD_D1; SD_D2; SD_D3; SD_CLK; SD_CMD
part I text: PPI1_D0/TFS1/PPI0_D18; PPI1_D1/DT1SEC/PPI0_D19; PPI1_D2/DT1PRI/PPI0_D20; PPI1_D3/TSCLK1/PPI0_D21; PPI1_D4/RFS1/PPI0_D22; PPI1_D5/DR1SEC/PPI0_D23; PPI1_D6/DR1PRI; PPI1_D7/RSCLK1; PPI1_D8/PPI2_D0/KEY_ROW0; PPI1_D9/PPI2_D1/KEY_ROW1; PPI1_D10/PPI2_D2/KEY_ROW2; PPI1_D11/PPI2_D3/KEY_ROW3; PPI1_D12/PPI2_D4/KEY_COL0; PPI1_D13/PPI2_D5/KEY_COL1; PPI1_D14/PPI2_D6/KEY_COL2; PPI1_D15/PPI2_D7/KEY_COL3
part J text: SPI0SCK/KEY_COL7; SPI0MISO/KEY_ROW6; SPI0MOSI/KEY_COL6; SPI0SS/KEY_ROW5; SPI0SEL1/KEY_COL?; SPI0SEL2/KEY_ROW4; SPI0SEL3/KEY_COL4; UART0TX/KEY_ROW7; UART0RX/TACI0; UART1RTS; UART1CTS; PPI1_CLK; PPI1_FS1; PPI1_FS2; SCL0(pu!); SDA0(pu!)
part K text: PPI0_D0; PPI0_D1; PPI0_D2; PPI0_D3; PPI0_D4; PPI0_D5; PPI0_D6; PPI0_D7; PPI0_D8; PPI0_D9; PPI0_D10; PPI0_D11; PPI0_D12; PPI0_D13; PPI0_D14; PPI0_D15
part L text: PPI0_CLK/TMRCLK; PPI0_FS1; PPI0_FS2; PPI0_D16; PPI0_D17; SPI1SEL1/PPI2_FS2/CZM; SPI1SEL2/PPI2_FS1; SPI1SEL3/PPI2_CLK; SPI1SCK; SPI1MISO; SPI1MOSI; SPI1SS; CAN0TX; CAN0RX/TACI4; CAN1TX; CAN1RX/TACI5
part M text: UART1TX/PPI1_FS3_DEN; UART1RX/PPI0_FS3_DEN/TACI1; TMR8/PPI2_FS3_DEN; TMR9/CDG; TMR10/CUD; TACI8/TACLK8; TACI9/TACLK9; TACI10/TACLK10
part N text: A21; A22; A23; A24; A25/NR_CLK
part O text: ARDY/~WAIT; ~ND_CE; ~ND_RB; -; ~BR; ~BG; ~BGH

## ADuM1100
designator DD?
IC Single-Channel Digital Isolator; Описание: Микросхема SO8; NumberSolderPointsSMD: 0; Аналог: нет; NumberSolderPointsTHT: 0
footprint SO8
pins: 1 VDD1 (power), 2 IN (in), 3 VDD1 (power), 4 GND1 (power), 5 GND2 (power), 6 OUT (out), 7 GND2 (power), 8 VCC2 (power)

## ADuM1251AR
designator DD?
IC i2c isolator; Описание: Микросхема SO8; NumberSolderPointsSMD: 0; Аналог: нет; NumberSolderPointsTHT: 0
footprint SO8
pins: 1 VDD1 (power), 2 SDA1 (io), 3 SCL1 (in), 4 GND1 (power), 5 GND2 (power), 6 SCL2 (out), 7 SDA2 (io), 8 VDD2 (power)

## ADuM7400(A)
designator DD?
IC Isolated Sigma-Delta Modulator (SO16,internal clock); Описание: ???; NumberSolderPointsSMD: 0; Аналог: нет; NumberSolderPointsTHT: 0
footprint SO16W
pins: 1 VDD1 (power), 2 VIN+ (in), 3 VIN- (in), 4 NC, 5 NC, 6 NC, 7 VDD1 (power), 8 GND1 (power), 9 GND2 (power), 10 NC, 11 MDAT (out), 12 NC, 13 MCLK (out), 14 VDD2 (out), 15 NC, 16 GND2 (power)

## ADuM7401(A)
designator D?
IC Isolated Sigma-Delta Modulator (SO16,external clock); Описание: ???; NumberSolderPointsSMD: 0; Аналог: нет; NumberSolderPointsTHT: 0
footprint SO16W
pins: 1 VDD1 (power), 2 VIN+ (in), 3 VIN- (in), 4 NC, 5 NC, 6 NC, 7 VDD1 (power), 8 GND1 (power), 9 GND2 (power), 10 NC, 11 MDAT (out), 12 NC, 13 MCLK (in), 14 VDD2 (out), 15 NC, 16 GND2 (power)

## ADuMx2x0
designator DD?
IC Dual-Channel Digital Isolator; Описание: Микросхема SO8; NumberSolderPointsSMD: 0; Аналог: нет; NumberSolderPointsTHT: 0
footprint SO8
pins: 1 VCC1 (power), 2 VA (in), 3 VB (in), 4 GND1 (power), 5 GND2 (power), 6 VB (out), 7 VA (out), 8 VCC2 (power)

## ADuMx2x1
designator DD?
IC Dual-Channel Digital Isolator; Описание: Микросхема SO8; NumberSolderPointsSMD: 0; Аналог: нет; NumberSolderPointsTHT: 0
footprint SO8
pins: 1 VCC1 (power), 2 VA (out), 3 VB (in), 4 GND1 (power), 5 GND2 (power), 6 VB (out), 7 VA (in), 8 VCC2 (power)

## ADuMx3x0
designator DD?
IC Quad-Channel Digital Isolator; Описание: ???; NumberSolderPointsSMD: 0; Аналог: нет; NumberSolderPointsTHT: 0
footprint SO16W
pins: 1 VCC1 (power), 2 GND1 (power), 3 VA (in), 4 VB (in), 5 VC (in), 6 nc, 7 nc, 8 GND1 (power), 9 GND2 (power), 10 VEN2 (in), 11 nv, 12 VC (out), 13 VB (out), 14 VA (out), 15 GND2 (power), 16 VCC2 (power)

## ADuMx3x1
designator DD?
IC Quad-Channel Digital Isolator; Описание: ???; NumberSolderPointsSMD: 0; Аналог: нет; NumberSolderPointsTHT: 0
footprint SO16W
pins: 1 VCC1 (power), 2 GND1 (power), 3 VA (in), 4 VB (in), 5 VC (out), 6 nc, 7 VEN1 (in), 8 GND1 (power), 9 GND2 (power), 10 VEN2 (in), 11 nc, 12 VC (in), 13 VB (out), 14 VA (out), 15 GND2 (power), 16 VCC2 (power)

## ADuMx4x0
designator DD?
IC Quad-Channel Digital Isolator; Описание: ???; NumberSolderPointsSMD: 0; Аналог: нет; NumberSolderPointsTHT: 0
footprint SO16W
pins: 1 VCC1 (power), 2 GND1 (power), 3 VA (in), 4 VB (in), 5 VC (in), 6 VD (in), 7 NC, 8 GND1 (power), 9 GND2 (power), 10 VEN2 (in), 11 VD (out), 12 VC (out), 13 VB (out), 14 VA (out), 15 GND2 (power), 16 VCC2 (power)

## ADuMx4x1
designator DD?
IC Quad-Channel Digital Isolator; Описание: ???; NumberSolderPointsSMD: 0; Аналог: нет; NumberSolderPointsTHT: 0
footprint SO16W
pins: 1 VCC1 (power), 2 GND1 (power), 3 VA (in), 4 VB (in), 5 VC (in), 6 VD (out), 7 VEN1 (in), 8 GND1 (power), 9 GND2 (power), 10 VEN2 (in), 11 VD (in), 12 VC (out), 13 VB (out), 14 VA (out), 15 GND2 (power), 16 VCC2 (power)

## ADuMx4x2
designator DD?
IC Quad-Channel Digital Isolator; Описание: ???; NumberSolderPointsSMD: 0; Аналог: нет; NumberSolderPointsTHT: 0
footprint SO16W
pins: 1 VCC1 (power), 2 GND1 (power), 3 VA (in), 4 VB (in), 5 VC (out), 6 VD (out), 7 VEN1 (in), 8 GND1 (power), 9 GND2 (power), 10 VEN2 (in), 11 VD (in), 12 VC (in), 13 VB (out), 14 VA (out), 15 GND2 (power), 16 VCC2 (power)

## ADuMx5x0
designator DD?
IC \5-Channel, Unidirectional Digital Isolator; Описание: ???; NumberSolderPointsSMD: 0; Аналог: нет; NumberSolderPointsTHT: 0
footprint SO16W
pins: 1 VCC1 (power), 2 GND1 (power), 3 VA (in), 4 VB (in), 5 VC (in), 6 VD (in), 7 VE (in), 8 GND1 (power), 9 GND2 (power), 10 VE (out), 11 VD (out), 12 VC (out), 13 VB (out), 14 VA (out), 15 GND2 (power), 16 VCC2 (power)

## ADuMx160
designator DD?
IC Full/Low Speed 2.5 kV/5 kV USB Digital Isolator; Описание: ???; NumberSolderPointsSMD: 0; Аналог: нет; NumberSolderPointsTHT: 0
footprint SO16W
pins: 1 VBUS1 (power), 2 GND1 (power), 3 VDD1 (power), 4 PDEN (in), 5 SPU (in), 6 UD- (io), 7 UD+ (io), 8 GND1 (power), 9 GND2 (power), 10 DD+ (io), 11 DD- (io), 12 PIN (in), 13 SPD (in), 14 VDD2 (power), 15 GND2 (power), 16 VBUS2 (power)

## AFBR-5803AQZ
designator A?
CONNECTOR FIBER Fast Ethernet Transceiver with duplex SC connector; Описание: ???; NumberSolderPointsSMD: 0; Аналог: нет; NumberSolderPointsTHT: 0
footprint AFBR-5803AQZ
pins: 1 Vee, 2 RD, 3 ~RD, 4 SD, 5 RxVcc, 6 TxVcc, 7 ~TD, 8 TD, 9 Vee, 10 Shield
text: Rx; Tx

## AMEL05-5SZ
designator G?
MODULE POWER 5 Watt AC-DC Converter; Описание: ???; NumberSolderPointsSMD: 0; Аналог: нет; NumberSolderPointsTHT: 0
footprint AMEL05
pins: 1 N (power), 2 L (power), 3 -V (power), 4 +V (power)
text: AC; DC

## AMIS49587C5871G
designator DA?, comment IC Power Line Carrier Modem
IC; Описание: ???; NumberSolderPointsSMD: 0; Аналог: нет; NumberSolderPointsTHT: 0
footprint PLCC28_AMIS49587
pins: 1 VSSA, 2 RX_OUT (out), 3 RX_IN (in), 4 REF_OUT (out), 5 M50HZ_IN (in), 6 RX_DATA (out), 7 TDO (out), 8 TDI (in), 9 TCK (in), 10 TMS (in), 11 TRSTB (in), 12 TXDATA/PS (out), 13 XIN (in), 14 XOUT (out), 15 VSS, 16 VDD, 17 TXD (out), 18 RXD (in), 19 T_REQ (in), 20 BR1 (in), 21 BR0 (in), 22 CRC (out), 23 RESB (in), 24 TEST (in), 25 TX_ENB (out), 26 TX_OUT (out), 27 ALC_IN (in), 28 VDDA

## AN2051
designator A?
ANTENNA Multilayer Chip Antenna (Bluetooth, 2.4 GHz WLAN, ….); Описание: ???; NumberSolderPointsSMD: 0; Аналог: нет; NumberSolderPointsTHT: 0
footprint AN2051
pins: 1 FEED, 2 NC hidden

## ANT-433-HE
designator A?
ANTENNA 433MHz; Описание: Антенна; NumberSolderPointsSMD: 0; Аналог: нет; NumberSolderPointsTHT: 0
footprint ANT-433-HE
pins: 1

## ARJP11A-MASA-E
designator X?
CONNECTOR RJ45; Описание: ???; NumberSolderPointsSMD: 0; Аналог: нет; NumberSolderPointsTHT: 0
footprint ARJP11A-MASA-E
pins: 1 TD+, 2 TD-, 3 RD+, 4 TD, 5 RD, 6 RD-, 7 GND, 9 V+, 10 V-, 11 LED1+, 12 LED1-, 13 LED2+, 14 LED2-, 15 SHLD
text: J8; J7; J6 RX-; J5; J4; J3 RX+; J2 TX-; J1 TX+

## AT93C46DN
designator DD?  (value not drawn)
IC Three-wire Serial EEPROM 1024bits; Описание: ???; NumberSolderPointsSMD: 0; Аналог: нет; NumberSolderPointsTHT: 0
footprint SO8
pins: 1 CS (in), 2 SK (in), 3 DI (in), 4 DO (out), 5 GND (power), 6 ORG (in), 7 DC, 8 VCC (power)

## ATmega32L-8AU
designator DD?  (value not drawn)
IC UC/UP 8bit AVR microcontroller; Описание: ???; NumberSolderPointsSMD: 0; Аналог: нет; NumberSolderPointsTHT: 0
footprint TQFP44_ATMEGA32
pins: 1 PB5/MOSI, 2 PB6/MISO, 3 PB7/SCK, 4 ~{RESET}, 5 VCC, 6 GND, 7 XTAL2, 8 XTAL1, 9 PD0/RXD, 10 PD1/TXD, 11 PD2/INT0, 12 PD3/INT1, 13 PD4, 14 PD5, 15 PD6, 16 PD7, 17 VCC, 18 GND, 19 PC0/SCL, 20 PC1/SDA, 21 TCK, 22 TMS, 23 TDO, 24 TDI, 25 PC6, 26 PC7, 27 AVCC, 28 GND, 29 AREF, 30 PA7, 31 PA6, 32 PA5, 33 PA4, 34 PA3, 35 PA2, 36 PA1, 37 PA0, 38 VCC, 39 GND, 40 PB0, 41 PB1, 42 PB2/INT2, 43 PB3, 44 PB4/~{SS}

## ATtiny13(A,V)-20P
designator DD?
IC 8bit AVR microcontroller; Описание: ???; NumberSolderPointsSMD: 0; Аналог: нет; NumberSolderPointsTHT: 0
footprint DIP8_ATTINY13
pins: 1 ~{RESET}, 2 PB3/ADC3, 3 PB4/ADC2, 4 GND, 5 PB0/OC0A, 6 PB1/INT0, 7 PB2/ADC1, 8 VCC

## B35-3556920-AMT03
designator A?
ANTENNA gps/glonass; Описание: Антенна; NumberSolderPointsSMD: 0; Аналог: нет; NumberSolderPointsTHT: 0
footprint B35-3556920-AMT03
pins: 1

## B41121_d8_h10
designator C?
CAPACITOR Aluminum Electrolytic SMD d=8mm h=10mm; x: 100u35V: B41121A7107M000, 100u50v: B41121A6107M000; Описание: Конденсатор SMD; Аналог: *
footprint B41121_d8_h10(manual)
pins: 1, 2

## B64290L0045X038-5wire
designator L?  (value not drawn)
MAGNETIC 5-wire common choke; Описание: ???; NumberSolderPointsSMD: 0; Аналог: нет; NumberSolderPointsTHT: 0
footprint B64290L0045X038-5wire
pins: 1  , 2  , 3  , 4  , 5  , 6  , 7  , 8  , 9  , 10  

## B72210S0250K101
designator R?  (value not drawn)
PROTECTION 25vrms/39vdc varistor (standarD); Описание: ???; NumberSolderPointsSMD: 0; NumberSolderPointsTHT: 2; Аналог: нет
footprint B72210S0250K101
pins: 1, 2
1 alternate drawing of the same symbol

## B72210S0551K101
designator R?  (value not drawn)
PROTECTION 550vrms/745vdc varistor (standarD); Описание: ???; NumberSolderPointsSMD: 0; Аналог: нет; NumberSolderPointsTHT: 0
footprint B72210S0551K101
pins: 1, 2

## BAS16VY
designator D?  (value not drawn)
DIODE triple isolated diodes 100V 200mA; Описание: ???; NumberSolderPointsSMD: 0; Аналог: нет; NumberSolderPointsTHT: 0
footprint SOT363
part A pins: 1, 6
part B pins: 2, 5
part C pins: 3, 4

## BAS45A
designator VD?
DIODE Low-leakage diode; Описание: ???; NumberSolderPointsSMD: 0; Аналог: нет; NumberSolderPointsTHT: 0
footprint DO34_BAS45A
pins: 1, 2

## BAT54
designator VD?
DIODE Schottky barrier diodes; Описание: Диод SOT23; NumberSolderPointsSMD: 0; Аналог: нет; NumberSolderPointsTHT: 0
footprint SOT23
pins: 1, 3

## BAT54A
designator VD?
DIODE Schottky barrier diodes; Описание: Диодная сборка SOT23; NumberSolderPointsSMD: 0; Аналог: нет; NumberSolderPointsTHT: 0
footprint SOT23
pins: 1, 2, 3

## BAT54C
designator VD?
DIODE Schottky barrier diodes; Описание: Диодная сборка SOT23; NumberSolderPointsSMD: 0; Аналог: нет; NumberSolderPointsTHT: 0
footprint SOT23
pins: 1, 2, 3

## BAT54J
designator VD?
DIODE Schottky barrier diodes; Описание: Диод SOD323; NumberSolderPointsSMD: 0; Аналог: нет; NumberSolderPointsTHT: 0
footprint SOD323F_BAT54J
pins: 1, 2

## BAT54S
designator VD?
DIODE Schottky barrier diodes; Описание: Диодная сборка SOT23; NumberSolderPointsSMD: 0; Аналог: нет; NumberSolderPointsTHT: 0
footprint SOT23
pins: 1, 2, 3

## BAV99
designator VD?
DIODE High-speed double diode; Описание: Диодная сборка SOT23; NumberSolderPointsSMD: 0; Аналог: нет; NumberSolderPointsTHT: 0
footprint SOT23
pins: 1, 2, 3

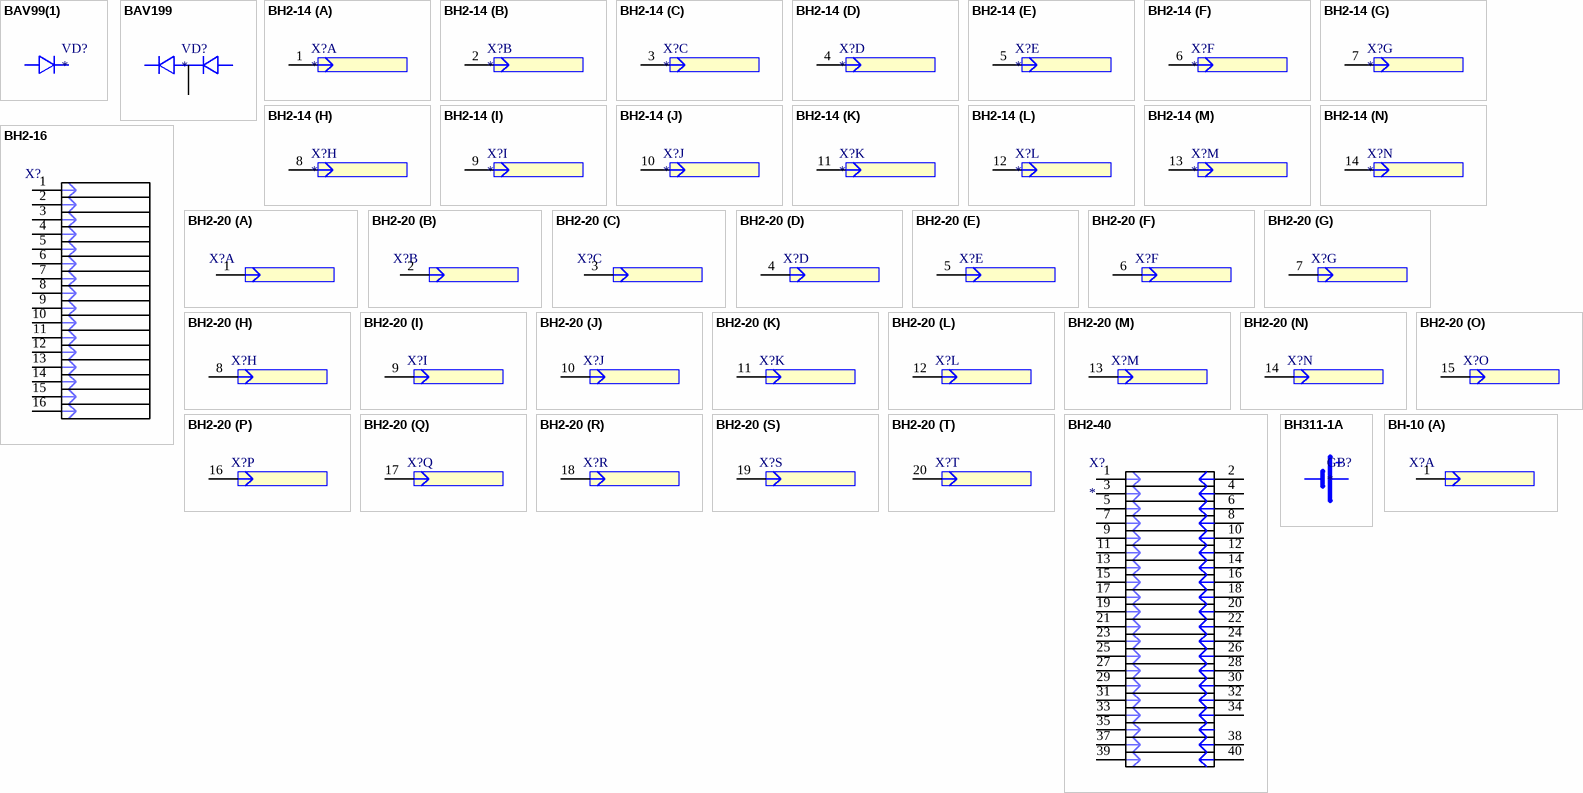
[diagram p4: symbols BAV99(1) to BH-10]

## BAV99(1)
designator VD?
DIODE High-speed double diode; Описание: Диодная сборка SOT23; NumberSolderPointsSMD: 0; Аналог: нет; NumberSolderPointsTHT: 0
footprint SOT23
pins: 1, 3

## BAV199
designator VD?
DIODE Low-leakage double diode; Описание: Диодная сборка SOT23; NumberSolderPointsSMD: 0; Аналог: нет; NumberSolderPointsTHT: 0
footprint SOT23
pins: 1, 2, 3

## BH2-14
designator X?
CONNECTOR 2mm pitch , male; Описание: ???; NumberSolderPointsSMD: 0; Аналог: нет; NumberSolderPointsTHT: 0
footprint BH2-14
part A pins: 1
part B pins: 2
part C pins: 3
part D pins: 4  
part E pins: 5
part F pins: 6
part G pins: 7
part H pins: 8
part I pins: 9
part J pins: 10
part K pins: 11
part L pins: 12
part M pins: 13
part N pins: 14

## BH2-16
designator X?
Описание: ???
footprint BH2-16
pins: 1, 2, 3, 4, 5, 6, 7, 8, 9, 10, 11, 12, 13, 14, 15, 16

## BH2-20
designator X?
CONNECTOR 2mm pitch , male; Описание: ???; NumberSolderPointsSMD: 0; Аналог: нет; NumberSolderPointsTHT: 0
footprint BH2-20
part A pins: 1
part B pins: 2
part C pins: 3
part D pins: 4
part E pins: 5
part F pins: 6
part G pins: 7
part H pins: 8
part I pins: 9
part J pins: 10
part K pins: 11
part L pins: 12
part M pins: 13
part N pins: 14
part O pins: 15
part P pins: 16
part Q pins: 17
part R pins: 18
part S pins: 19
part T pins: 20

## BH2-40
designator X?
Описание: ???
footprint BH2-40
pins: 1, 2, 3, 4, 5, 6, 7, 8, 9, 10, 11, 12, 13, 14, 15, 16, 17, 18, 19, 20, 21, 22, 23, 24, 25, 26, 27, 28, 29, 30, 31, 32, 33, 34, 35, 36 hidden, 37, 38, 39, 40

## BH311-1A
designator GB?
BATTERY 1xAA battery holder; Описание: ???; NumberSolderPointsSMD: 0; Аналог: нет; NumberSolderPointsTHT: 0
footprint BH311-1A
pins: 1, 2

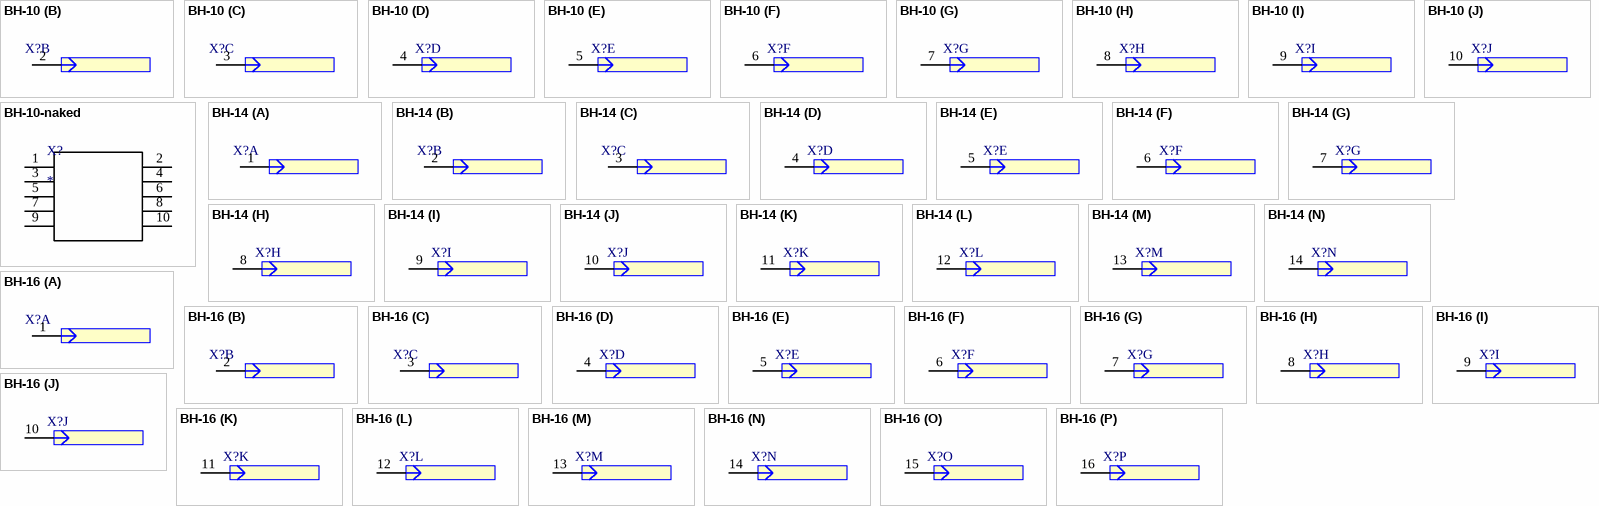
[diagram p5: symbols BH-10 to BH-16]

## BH-10
designator X?  (value not drawn)
CONNECTOR 2.54mm pitch , male; Описание: ???; NumberSolderPointsSMD: 0; Аналог: нет; NumberSolderPointsTHT: 0
footprint BH-10
part A pins: 1
part B pins: 2
part C pins: 3
part D pins: 4
part E pins: 5
part F pins: 6
part G pins: 7
part H pins: 8
part I pins: 9
part J pins: 10

## BH-10-naked
designator X?
Описание: Штыри 2x5 шаг 2.54мм
footprint BH-10 NAKED
pins: 1, 2, 3, 4, 5, 6, 7, 8, 9, 10

## BH-14
designator X?  (value not drawn)
CONNECTOR 2.54mm pitch , male; Описание: ???; NumberSolderPointsSMD: 0; Аналог: нет; NumberSolderPointsTHT: 0
footprint BH-14
part A pins: 1
part B pins: 2
part C pins: 3
part D pins: 4
part E pins: 5
part F pins: 6
part G pins: 7
part H pins: 8
part I pins: 9
part J pins: 10
part K pins: 11
part L pins: 12
part M pins: 13
part N pins: 14

## BH-16
designator X?  (value not drawn)
CONNECTOR 2.54mm pitch , male; Описание: ???; NumberSolderPointsSMD: 0; Аналог: нет; NumberSolderPointsTHT: 0
footprint BH-16
part A pins: 1
part B pins: 2
part C pins: 3
part D pins: 4
part E pins: 5
part F pins: 6
part G pins: 7
part H pins: 8
part I pins: 9
part J pins: 10
part K pins: 11
part L pins: 12
part M pins: 13
part N pins: 14
part O pins: 15
part P pins: 16

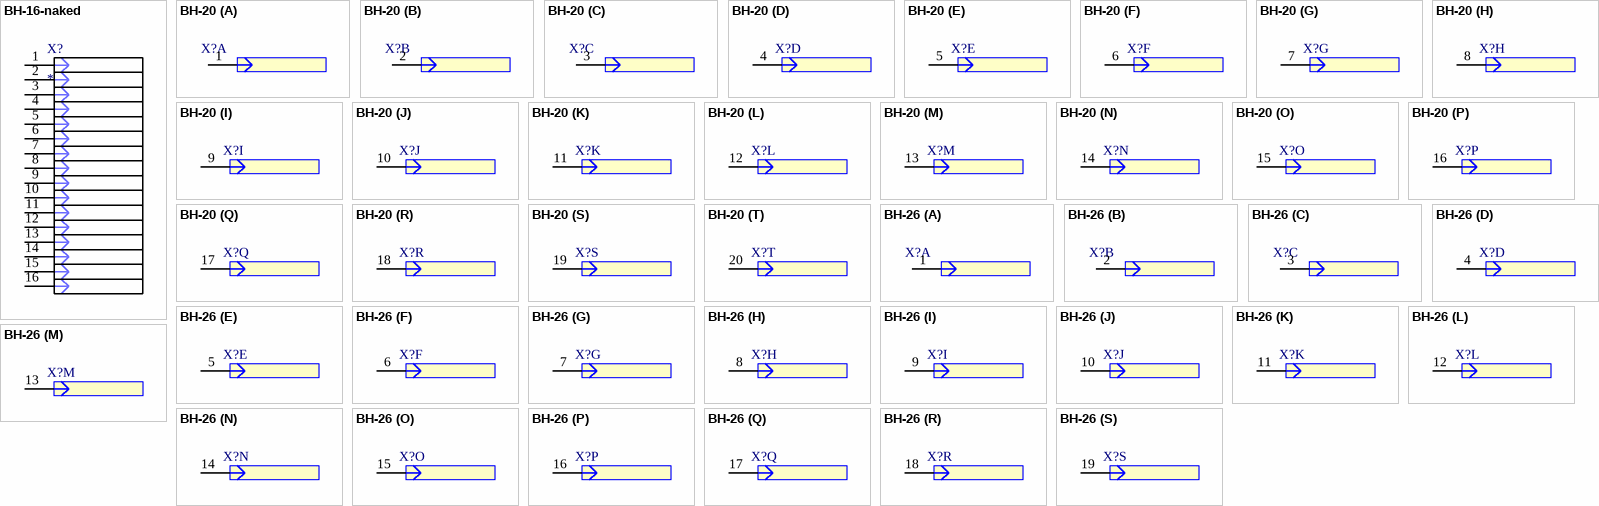
[diagram p6: symbols BH-16-naked to BH-26]

## BH-16-naked
designator X?
Описание: Штыри 2x8 шаг 2.54мм
footprint BH-16 NAKED
pins: 1, 2, 3, 4, 5, 6, 7, 8, 9, 10, 11, 12, 13, 14, 15, 16

## BH-20
designator X?
CONNECTOR 2.54mm pitch , male; Описание: ???; NumberSolderPointsSMD: 0; Аналог: нет; NumberSolderPointsTHT: 0
footprint BH-20
part A pins: 1
part B pins: 2
part C pins: 3
part D pins: 4
part E pins: 5
part F pins: 6
part G pins: 7
part H pins: 8
part I pins: 9
part J pins: 10
part K pins: 11
part L pins: 12
part M pins: 13
part N pins: 14
part O pins: 15
part P pins: 16
part Q pins: 17
part R pins: 18
part S pins: 19
part T pins: 20

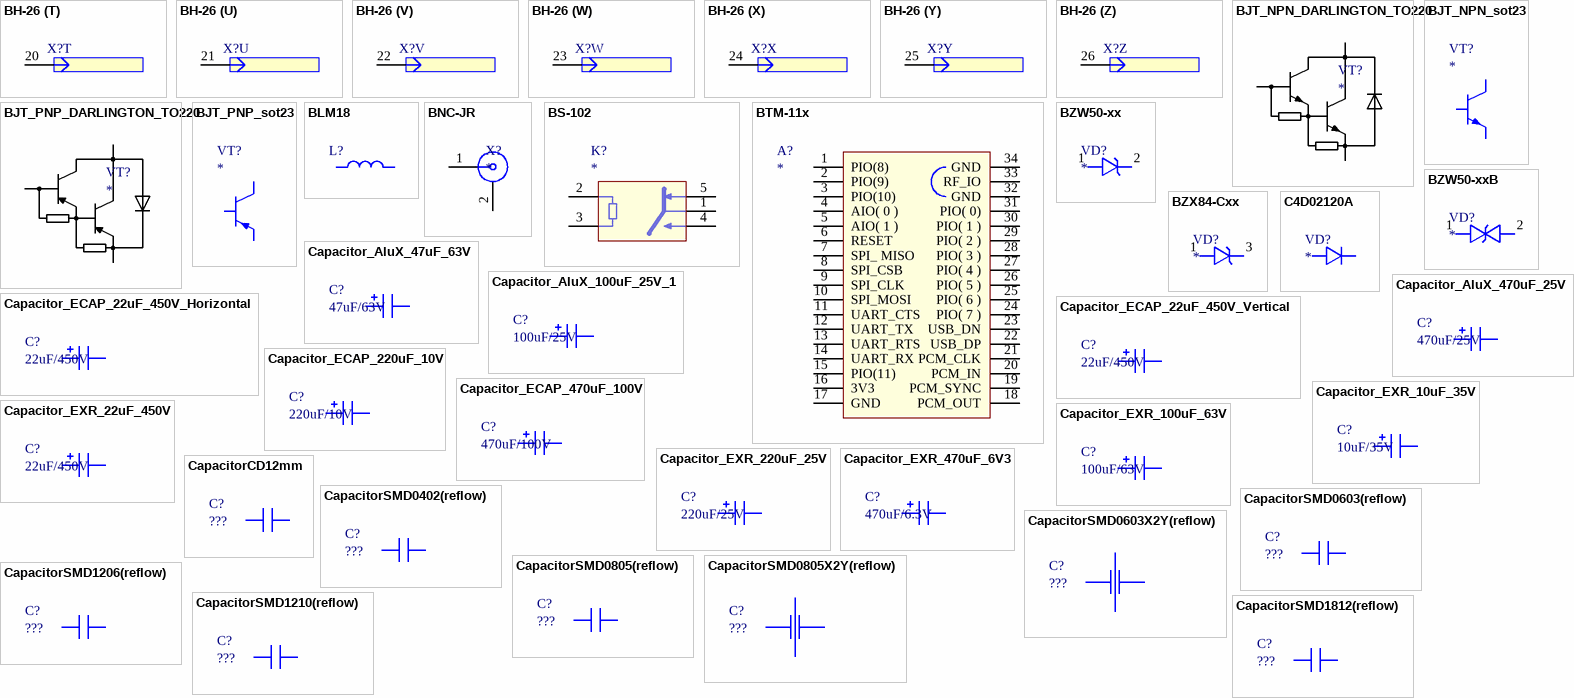
[diagram p7: symbols BH-26 to CapacitorSMD1812(reflow)]

## BH-26
designator X?
CONNECTOR 2.54mm pitch , male; Описание: ???; NumberSolderPointsSMD: 0; Аналог: нет; NumberSolderPointsTHT: 0
footprint BH-26
part A pins: 1
part B pins: 2
part C pins: 3
part D pins: 4
part E pins: 5
part F pins: 6
part G pins: 7
part H pins: 8
part I pins: 9
part J pins: 10
part K pins: 11
part L pins: 12
part M pins: 13
part N pins: 14
part O pins: 15
part P pins: 16
part Q pins: 17
part R pins: 18
part S pins: 19
part T pins: 20
part U pins: 21
part V pins: 22
part W pins: 23
part X pins: 24
part Y pins: 25
part Z pins: 26

## BJT_NPN_DARLINGTON_TO220
designator VT?
TRANSISTOR generic npn darlington TO-220; Описание: Транзистор SOT23; NumberSolderPointsSMD: 0; Аналог: нет; NumberSolderPointsTHT: 0
footprint TO220_SK29-38S
pins: 1, 2, 3

## BJT_NPN_sot23
designator VT?
TRANSISTOR generic npn bjt sot23; Описание: Транзистор SOT23; NumberSolderPointsSMD: 0; Аналог: нет; x: BC847A; NumberSolderPointsTHT: 0
footprint SOT23
pins: 1, 2, 3

## BJT_PNP_DARLINGTON_TO220
designator VT?
TRANSISTOR generic pnp darlington TO-220; Описание: ???; NumberSolderPointsSMD: 0; Аналог: нет; NumberSolderPointsTHT: 0
footprint TO220_SK29-38S
pins: 1, 2, 3

## BJT_PNP_sot23
designator VT?
TRANSISTOR generic pnp bjt sot23; Описание: ???; NumberSolderPointsSMD: 0; Аналог: нет; NumberSolderPointsTHT: 0
footprint SOT23
pins: 1, 2, 3

## BLM18
designator L?  (value not drawn)
MAGNETIC BLM18 series ferrite bead SMD 0603; Описание: Фильтр SMD 0603; NumberSolderPointsSMD: 0; Аналог: нет; x: BLM18AG121SN1D; NumberSolderPointsTHT: 0
footprint InductorSMD0603(reflow)
footprint BLM18(manual)
pins: 1, 2

## BNC-JR
designator X?
CONNECTOR BNC connector - angle plug; Описание: Разъем BNC; NumberSolderPointsSMD: 0; Аналог: нет; NumberSolderPointsTHT: 0
footprint BNC-JR
pins: 1, 2

## BS-102
designator K?
RELAY spdt 1C 3..24V 2A-24V; Описание: ???; NumberSolderPointsSMD: 0; Аналог: нет; NumberSolderPointsTHT: 0
footprint BS-102
pins: 1, 2, 3, 4, 5

## BTM-11x
designator A?
MODULE RADIO Bluetooth module; Описание: ???; NumberSolderPointsSMD: 0; Аналог: нет; NumberSolderPointsTHT: 0
footprint BTM-11x
pins: 1 PIO(8), 2 PIO(9), 3 PIO(10), 4 AIO( 0 ), 5 AIO( 1 ), 6 RESET, 7 SPI_ MISO, 8 SPI_CSB, 9 SPI_CLK, 10 SPI_MOSI, 11 UART_CTS, 12 UART_TX, 13 UART_RTS, 14 UART_RX, 15 PIO(11), 16 3V3, 17 GND, 18 PCM_OUT, 19 PCM_SYNC, 20 PCM_IN, 21 PCM_CLK, 22 USB_DP, 23 USB_DN, 24 PIO( 7 ), 25 PIO( 6 ), 26 PIO( 5 ), 27 PIO( 4 ), 28 PIO( 3 ), 29 PIO( 2 ), 30 PIO( 1 ), 31 PIO( 0), 32 GND, 33 RF_IO, 34 GND

## BZW50-xx
designator VD?
DIODE TVS 5000 W TRANSIL 10V...180V; Описание: ???; NumberSolderPointsSMD: 0; Аналог: нет; NumberSolderPointsTHT: 0
footprint R6
pins: 1, 2

## BZW50-xxB
designator VD?
DIODE TVS  Bidirectional 5000 W TRANSIL 10V...180V; Описание: ???; NumberSolderPointsSMD: 0; Аналог: нет; NumberSolderPointsTHT: 0
footprint R6
pins: 1, 2

## BZX84-Cxx
designator VD?
DIODE ZENER 2.4...75V zener diodes in SOT23; Описание: Диод SOT23; NumberSolderPointsSMD: 0; Аналог: нет; NumberSolderPointsTHT: 0
footprint SOT23
pins: 1, 3

## C4D02120A
designator VD?
DIODE 1200V 2A SiC Schottky diode; Описание: Диод TO-220; NumberSolderPointsSMD: 2; NumberSolderPointsTHT: 0; Аналог: нет
footprint TO220_SiCDiode
pins: 1, 2

## Capacitor_AluX_47uF_63V
designator C?, comment 47uF/63V
CAPACITOR Capacitor Elecrolytic 47uF 63V; Описание: Конденсатор электролитический; NumberSolderPointsSMD: 0; Аналог: нет; NumberSolderPointsTHT: 0
footprint CapacitorElectrolyticRadial8x12x3.5mm
pins: 1, 2

## Capacitor_AluX_100uF_25V_1
designator C?, comment 100uF/25V
CAPACITOR Capacitor Elecrolytic 100uF 25V Epcos B41828A5477M; Описание: Конденсатор электролитический 6.3x11x2.5мм; NumberSolderPointsSMD: 0; Аналог: нет; NumberSolderPointsTHT: 0
footprint CapacitorElectrolyticRadial6.3x11x2.5mm - duplicate
pins: 1, 2

## Capacitor_AluX_470uF_25V
designator C?, comment 470uF/25V
CAPACITOR Capacitor Elecrolytic 470uF 25V Epcos B41828A5477M; Описание: Конденсатор электролитический; NumberSolderPointsSMD: 0; Аналог: нет; NumberSolderPointsTHT: 0
footprint CapacitorElectrolyticRadial10x16x5mm
pins: 1, 2

## Capacitor_ECAP_22uF_450V_Horizontal
designator C?, comment 22uF/450V
CAPACITOR Capacitor Elecrolytic ECAP 22uF 450V; Описание: Конденсатор электролитический 16x25x7.5мм; NumberSolderPointsSMD: 0; NumberSolderPointsTHT: 2; Аналог: нет
footprint CapacitorElectrolyticRadial16x25x7.5mmHorizontal - duplicate
pins: 1, 2

## Capacitor_ECAP_22uF_450V_Vertical
designator C?, comment 22uF/450V
CAPACITOR Capacitor Elecrolytic ECAP 22uF 450V; Описание: Конденсатор электролитический; NumberSolderPointsSMD: 0; NumberSolderPointsTHT: 2; Аналог: нет
footprint CapacitorElectrolyticRadial16x25x7.5mmVertical
pins: 1, 2

## Capacitor_ECAP_220uF_10V
designator C?, comment 220uF/10V
CAPACITOR Capacitor Elecrolytic ECAP 220uF 10V (6.3x11mm); Описание: Конденсатор электролитический; NumberSolderPointsSMD: 0; NumberSolderPointsTHT: 2; Аналог: нет
footprint CapacitorElectrolyticRadial6.3x11x2.5mm
pins: 1, 2

## Capacitor_ECAP_470uF_100V
designator C?, comment 470uF/100V
CAPACITOR Capacitor Elecrolytic ECAP 470uF 100V (16x25mm); Описание: Конденсатор электролитический; NumberSolderPointsSMD: 0; NumberSolderPointsTHT: 2; Аналог: нет
footprint CapacitorElectrolyticRadial16x25x7.5mmVertical
footprint CapacitorElectrolyticRadial16x25x7.5mmHorizontal
pins: 1, 2

## Capacitor_EXR_10uF_35V
designator C?, comment 10uF/35V
CAPACITOR Capacitor Elecrolytic Hitano EXR 10uF 35V; Описание: Конденсатор электролитический 5x11x2мм; NumberSolderPointsSMD: 0; Аналог: нет; NumberSolderPointsTHT: 0
footprint CapacitorElectrolyticRadial5x11x2mm
pins: 1, 2

## Capacitor_EXR_22uF_450V
designator C?, comment 22uF/450V
CAPACITOR Capacitor Elecrolytic Hitano EXR 22uF 450V; Описание: Конденсатор электролитический 13x26x5мм; NumberSolderPointsSMD: 0; Аналог: нет; NumberSolderPointsTHT: 0
footprint CapacitorElectrolyticRadial13x26x5mmHorizontal
footprint CapacitorElectrolyticRadial13x26x5mm
pins: 1, 2

## Capacitor_EXR_100uF_63V
designator C?, comment 100uF/63V
CAPACITOR Capacitor Elecrolytic Hitano EXR 100uF 63V; Описание: Конденсатор электролитический 10x16x5мм; NumberSolderPointsSMD: 0; Аналог: нет; NumberSolderPointsTHT: 0
footprint CapacitorElectrolyticRadial10x16x5mm
pins: 1, 2

## Capacitor_EXR_220uF_25V
designator C?, comment 220uF/25V
CAPACITOR Capacitor Elecrolytic Hitano EXR 220uF 25V; Описание: Конденсатор электролитический 8x12x3.5мм; NumberSolderPointsSMD: 0; Аналог: нет; NumberSolderPointsTHT: 0
footprint CapacitorElectrolyticRadial8x12x3.5mm
pins: 1, 2

## Capacitor_EXR_470uF_6V3
designator C?, comment 470uF/6.3V
CAPACITOR Capacitor Elecrolytic Hitano EXR 470uF 6.3V; Описание: Конденсатор электролитический; NumberSolderPointsSMD: 0; Аналог: нет; NumberSolderPointsTHT: 0
footprint CapacitorElectrolyticRadial8x12x3.5mm
pins: 1, 2

## CapacitorCD12mm
designator C?, comment ???
CAPACITOR High voltage disk ceramic capacitor HITANO; NumberSolderPointsSMD: 0; Аналог: нет; Описание: ???; NumberSolderPointsTHT: 0
footprint CapacitorCeramicDisk12mm
pins: 1, 2

## CapacitorSMD0402(reflow)
designator C?, comment ???
CAPACITOR  SMD 0402; Описание: Конденсатор SMD 0402; NumberSolderPointsSMD: 0; Аналог: нет; NumberSolderPointsTHT: 0
footprint CapacitorSMD0402(reflow)
pins: 1, 2

## CapacitorSMD0603(reflow)
designator C?, comment ???
CAPACITOR Capacitor SMD 0603 1.6x0.8mm; Описание: Конденсатор SMD 0603; NumberSolderPointsSMD: 0; Аналог: нет; NumberSolderPointsTHT: 0
footprint CapacitorSMD0603(reflow)
footprint CapacitorSMD0603(manual)
pins: 1, 2

## CapacitorSMD0603X2Y(reflow)
designator C?, comment ???
CAPACITOR Capacitor SMD X2Y 0603 1.6x0.8mm; Описание: Конденсатор 3-выводной SMD 0603 X2Y; NumberSolderPointsSMD: 0; Аналог: нет; NumberSolderPointsTHT: 0
footprint CapacitorSMD0603X2Y(reflow)
pins: 1, 2, 3, 4

## CapacitorSMD0805(reflow)
designator C?, comment ???
CAPACITOR Capacitor SMD 0805 2.0x1.2mm; Описание: Конденсатор SMD 0805; NumberSolderPointsSMD: 0; Аналог: нет; NumberSolderPointsTHT: 0
footprint CapacitorSMD0805(reflow)
pins: 1, 2

## CapacitorSMD0805X2Y(reflow)
designator C?, comment ???
CAPACITOR Capacitor SMD X2Y 0805 2.0x1.2mm; Описание: Конденсатор 3-выводной SMD 0603 X2Y; NumberSolderPointsSMD: 0; Аналог: нет; NumberSolderPointsTHT: 0
footprint CapacitorSMD0805X2Y(reflow)
pins: 1, 2, 3, 4

## CapacitorSMD1206(reflow)
designator C?, comment ???
CAPACITOR Capacitor SMD 1206 3.2x1.6mm; Описание: Конденсатор SMD 1206; NumberSolderPointsSMD: 0; Аналог: нет; NumberSolderPointsTHT: 0
footprint CapacitorSMD1206(reflow)
pins: 1, 2

## CapacitorSMD1210(reflow)
designator C?, comment ???
CAPACITOR Capacitor SMD 1210 3.2x2.5mm; Описание: Конденсатор SMD 1210; NumberSolderPointsSMD: 0; Аналог: нет; NumberSolderPointsTHT: 0
footprint CapacitorSMD1210(reflow)
footprint CapacitorSMD1210(reflow/2.5mm)
pins: 1, 2

## CapacitorSMD1812(reflow)
designator C?, comment ???
CAPACITOR Capacitor SMD 1812 4.6x3.2mm; Описание: Конденсатор SMD 1812; NumberSolderPointsSMD: 0; Аналог: нет; NumberSolderPointsTHT: 0
footprint CapacitorSMD1812(reflow)
pins: 1, 2

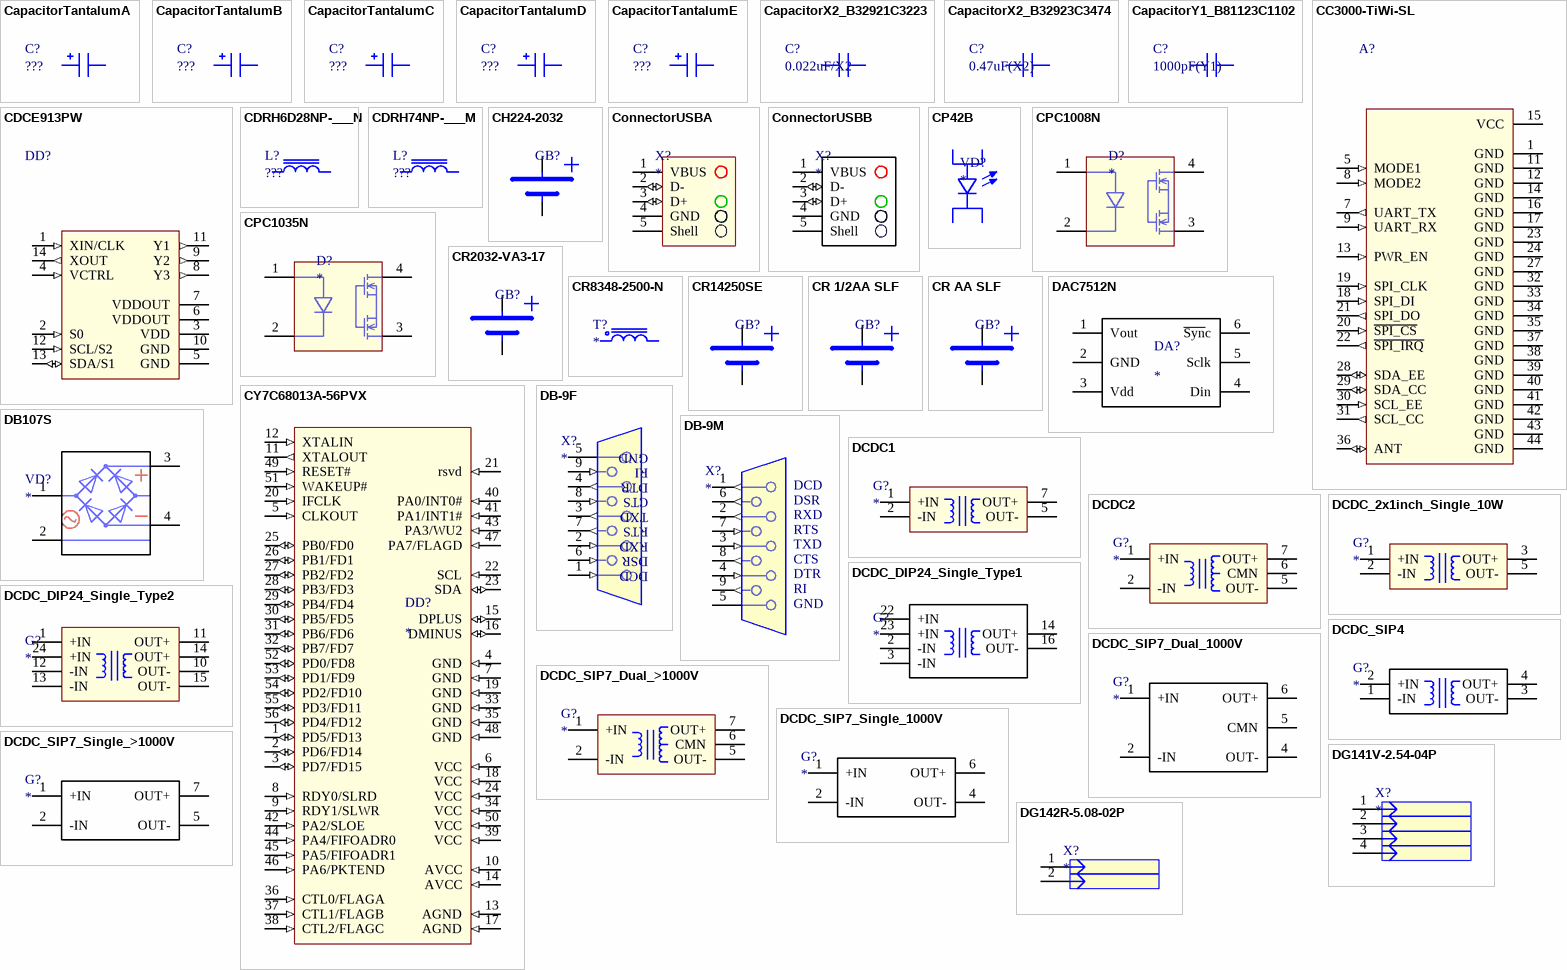
[diagram p8: symbols CapacitorTantalumA to DG142R-5.08-02P]

## CapacitorTantalumA
designator C?, comment ???
CAPACITOR Capacitor SMD Tantalum A 3.2x1.6mm; NumberSolderPointsSMD: 0; Аналог: нет; Описание: ???; NumberSolderPointsTHT: 0
pins: 1, 2

## CapacitorTantalumB
designator C?, comment ???
CAPACITOR Capacitor SMD Tantalum B 3.5x2.8mm; NumberSolderPointsSMD: 0; Аналог: нет; Описание: ???; NumberSolderPointsTHT: 0
pins: 1, 2

## CapacitorTantalumC
designator C?, comment ???
CAPACITOR Capacitor SMD Tantalum C 6.0x3.2mm; NumberSolderPointsSMD: 0; Аналог: нет; Описание: ???; NumberSolderPointsTHT: 0
pins: 1, 2

## CapacitorTantalumD
designator C?, comment ???
CAPACITOR Capacitor SMD Tantalum D 7.3x4.3mm; NumberSolderPointsSMD: 0; Аналог: нет; Описание: ???; NumberSolderPointsTHT: 0
footprint CapacitorTantalumD
pins: 1, 2

## CapacitorTantalumE
designator C?, comment ???
CAPACITOR Capacitor SMD Tantalum E 7.3x4.3mm; NumberSolderPointsSMD: 0; Аналог: нет; Описание: ???; NumberSolderPointsTHT: 0
footprint CapacitorTantalumE
pins: 1, 2

## CapacitorX2_B32921C3223
designator C?, comment 0.022uF/X2
CAPACITOR EMI X2 B32921C3223; Описание: Конденсатор X2; NumberSolderPointsSMD: 0; Аналог: нет; NumberSolderPointsTHT: 0
footprint CapacitorX2_B32921C3223
pins: 1, 2

## CapacitorX2_B32923C3474
designator C?, comment 0.47uF(X2)
CAPACITOR EMI Suppression Capacitor (MKP) X2 B32923C3474; Описание: Конденсатор X2; NumberSolderPointsSMD: 0; Аналог: нет; NumberSolderPointsTHT: 0
footprint CapacitorX2_B32923C3474
pins: 1, 2